# Altium integrated library HyTechDevices.Library.IntLib: 384 symbols (part 1 of 4)
Pins are listed as number, name and electrical type; pins without a type are passive.

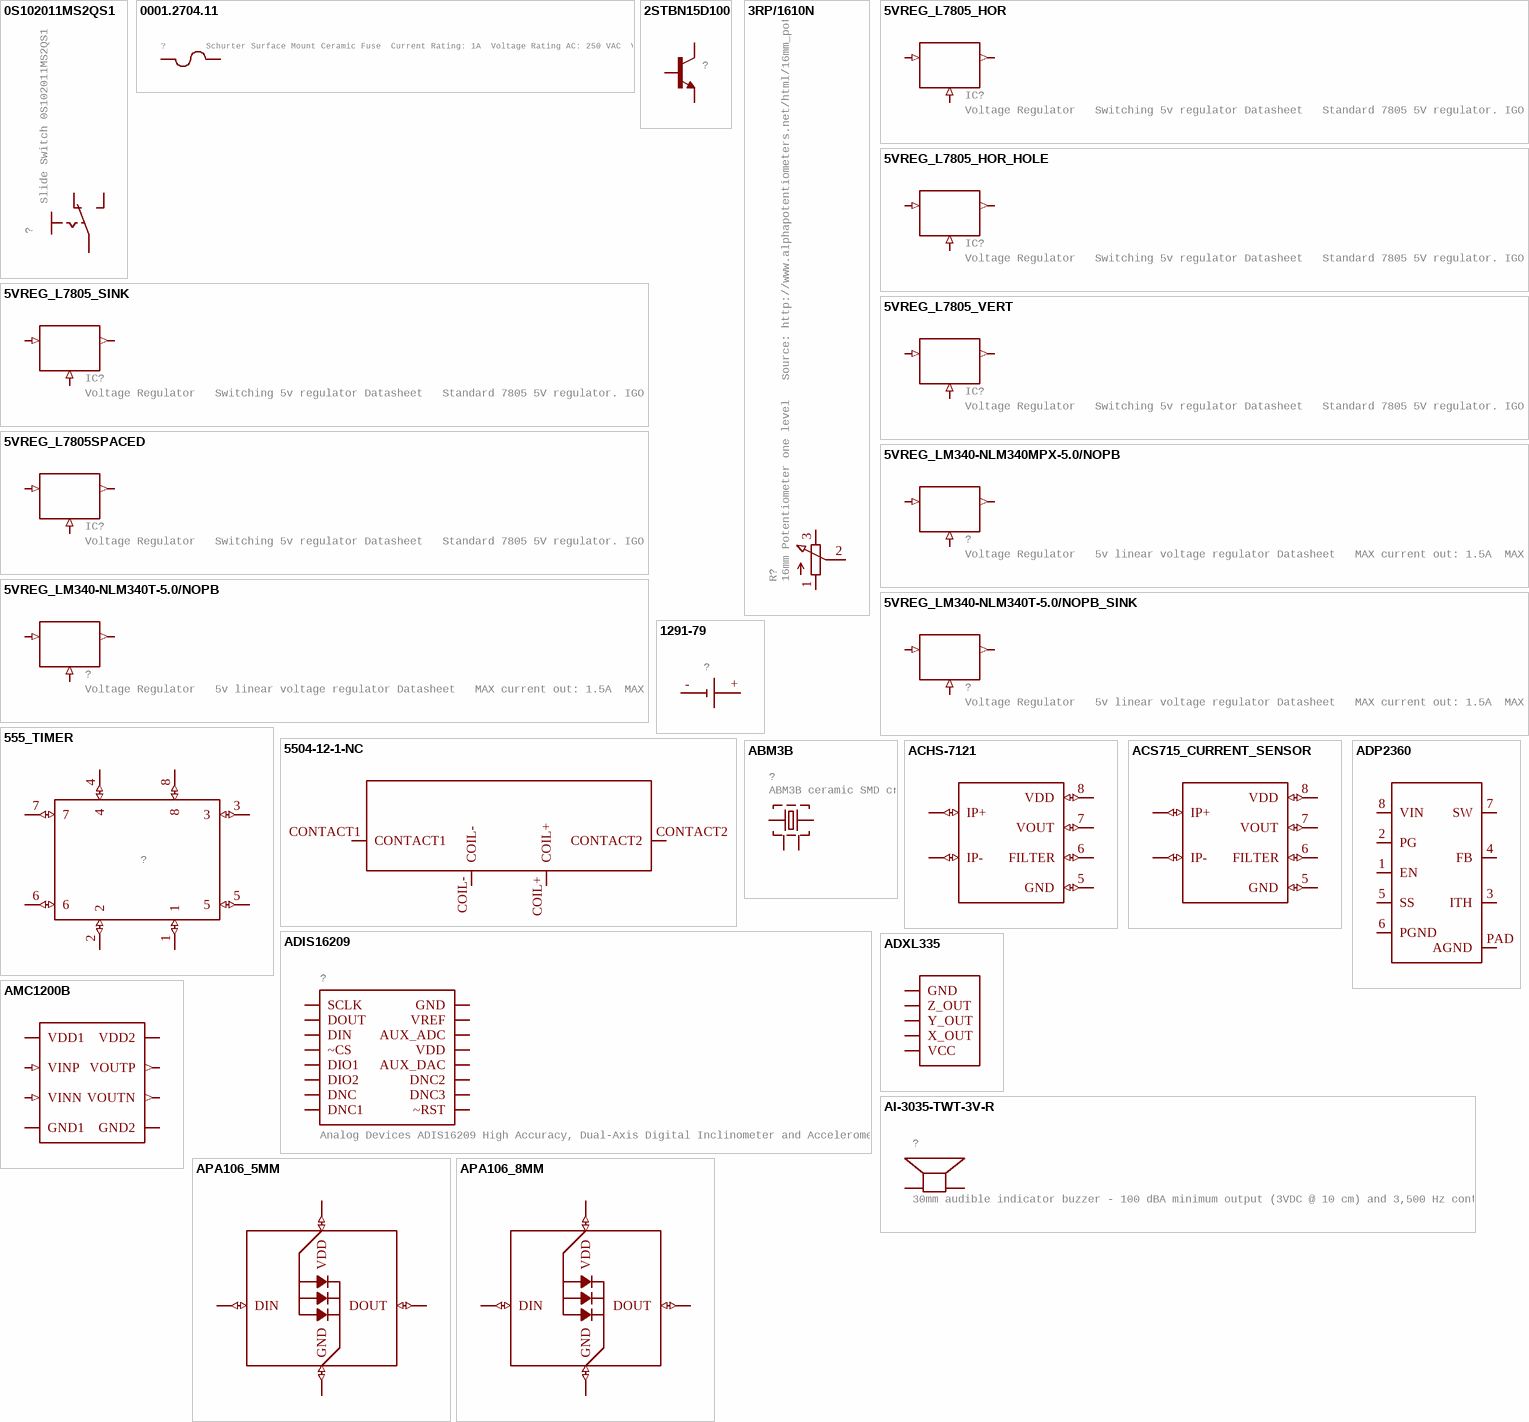
[diagram p0: symbols 0S102011MS2QS1 to APA106_8MM]

## 0S102011MS2QS1
designator ?, comment Slide Switch 0S102011MS2QS1
GateName_1: G$1; SymbolName_1: SIS; LibraryName: HyTechDevices; DeviceSetName: 0S102011MS2QS1; Package: 0S102011MS2QS1
footprint 0S102011MS2QS1
pins: P$1 O, P$2 P, P$3 S

## 0001.2704.11
designator ?, comment Schurter Surface Mount Ceramic Fuse  Current Rating: 1A  Voltage Rating AC: 250 VAC  Voltage Rating DC: 300 VDC  Dimensions: 5 mm x 20 mm  Datasheet
GateName_1: G$1; DeviceSetName: 0001.2704.11; SymbolName_1: FUSE; LibraryName: HyTechDevices; Package: 5X20MM_FUSE
footprint 5X20MM_FUSE
pins: P$1 1 (io), P$2 2 (io)

## 2STBN15D100
designator ?
GateName_1: G$1; SymbolName_1: NPN_BJT; DeviceSetName: 2STBN15D100; LibraryName: HyTechDevices; Package: P/PG-TO263
footprint P/PG-TO263
pins: B BASE, C COLLECTOR, E EMITTER

## 3RP/1610N
designator R?, comment 16mm Potentiometer one level   Source: http://www.alphapotentiometers.net/html/16mm_pot_2.html
GateName_1: G$1; SymbolName_1: POT_EU-; DeviceSetName: 3RP/1610N; LibraryName: HyTechDevices; Package: 3RP/1610N
footprint 3RP/1610N
pins: 1 A, 2 S, 3 E

## 5VREG_L7805_HOR
designator IC?, comment Voltage Regulator   Switching 5v regulator Datasheet   Standard 7805 5V regulator. IGO (Input Ground Output). Spark Fun Electronics SKU : COM-00107 Datasheet
GateName_1: G$1; SymbolName_1: VOLTAGE_REGULATOR; DeviceName: _HOR; DeviceSetName: 5VREG_L7805; LibraryName: HyTechDevices; Package: TO-220-H
footprint TO-220-H
pins: 1 IN (in), 2 GND (in), 3 OUT (out)

## 5VREG_L7805_HOR_HOLE
designator IC?, comment Voltage Regulator   Switching 5v regulator Datasheet   Standard 7805 5V regulator. IGO (Input Ground Output). Spark Fun Electronics SKU : COM-00107 Datasheet
GateName_1: G$1; SymbolName_1: VOLTAGE_REGULATOR; DeviceName: _HOR_HOLE; DeviceSetName: 5VREG_L7805; LibraryName: HyTechDevices; Package: TO-220-H-HOLE
footprint TO-220-H-HOLE
pins: 1 IN (in), 2 GND (in), 3 OUT (out)

## 5VREG_L7805_SINK
designator IC?, comment Voltage Regulator   Switching 5v regulator Datasheet   Standard 7805 5V regulator. IGO (Input Ground Output). Spark Fun Electronics SKU : COM-00107 Datasheet
GateName_1: G$1; SymbolName_1: VOLTAGE_REGULATOR; DeviceName: _SINK; DeviceSetName: 5VREG_L7805; LibraryName: HyTechDevices; Package: TO-220-SINK
footprint TO-220-SINK
pins: 1 IN (in), 2 GND (in), 3 OUT (out)

## 5VREG_L7805_VERT
designator IC?, comment Voltage Regulator   Switching 5v regulator Datasheet   Standard 7805 5V regulator. IGO (Input Ground Output). Spark Fun Electronics SKU : COM-00107 Datasheet
GateName_1: G$1; SymbolName_1: VOLTAGE_REGULATOR; DeviceName: _VERT; DeviceSetName: 5VREG_L7805; LibraryName: HyTechDevices; Package: TO-220
footprint TO-220
pins: 1 IN (in), 2 GND (in), 3 OUT (out)

## 5VREG_L7805SPACED
designator IC?, comment Voltage Regulator   Switching 5v regulator Datasheet   Standard 7805 5V regulator. IGO (Input Ground Output). Spark Fun Electronics SKU : COM-00107 Datasheet
GateName_1: G$1; SymbolName_1: VOLTAGE_REGULATOR; DeviceName: SPACED; DeviceSetName: 5VREG_L7805; LibraryName: HyTechDevices; Package: TO-220-SPACED
footprint TO-220-SPACED
pins: 1 IN (in), 2 GND (in), 3 OUT (out)

## 5VREG_LM340-NLM340MPX-5.0/NOPB
designator ?, comment Voltage Regulator   5v linear voltage regulator Datasheet   MAX current out: 1.5A  MAX voltage in: 35V
GateName_1: G$1; SymbolName_1: VOLTAGE_REGULATOR; DeviceName: LM340MPX-5.0/NOPB; DeviceSetName: 5VREG_LM340-N; LibraryName: HyTechDevices; Package: SOT223
footprint SOT223
pins: 1 IN (in), 2 4 GND (in), 3 OUT (out)

## 5VREG_LM340-NLM340T-5.0/NOPB
designator ?, comment Voltage Regulator   5v linear voltage regulator Datasheet   MAX current out: 1.5A  MAX voltage in: 35V
GateName_1: G$1; SymbolName_1: VOLTAGE_REGULATOR; DeviceName: LM340T-5.0/NOPB; DeviceSetName: 5VREG_LM340-N; LibraryName: HyTechDevices; Package: TO-220
footprint TO-220
pins: 1 IN (in), 2 GND (in), 3 OUT (out)

## 5VREG_LM340-NLM340T-5.0/NOPB_SINK
designator ?, comment Voltage Regulator   5v linear voltage regulator Datasheet   MAX current out: 1.5A  MAX voltage in: 35V
GateName_1: G$1; SymbolName_1: VOLTAGE_REGULATOR; DeviceName: LM340T-5.0/NOPB_SINK; DeviceSetName: 5VREG_LM340-N; LibraryName: HyTechDevices; Package: TO-220-SINK
footprint TO-220-SINK
pins: 1 IN (in), 2 GND (in), 3 OUT (out)

## 555_TIMER
designator ?, comment Standard 555 Timer   Fairchild Semiconductor LM555CN   Texas Instruments LM555CN/NOPB  (value not drawn)
GateName_1: G$1; SymbolName_1: 555_TIMER; LibraryName: HyTechDevices; DeviceSetName: 555_TIMER; Package: DIL08
footprint DIL08
pins: 1 (io), 2 (io), 3 (io), 4 (io), 5 (io), 6 (io), 7 (io), 8 (io)

## 1291-79
designator ?, comment Keystone Electronics 9V 9 Volt battery holder 1291-79  (value not drawn)
GateName_1: G$1; SymbolName_1: BATTERY; LibraryName: HyTechDevices; DeviceSetName: 1291-79; Package: 1291-79
footprint 1291-79
pins: +, -

## 5504-12-1-NC
designator ?, comment Relay 5504-12-1  Normally Closed(Form B)  (value not drawn)
GateName_1: G$1; SymbolName_1: 5504-12-1-NC-RELAY; DeviceSetName: 5504-12-1-NC; LibraryName: HyTechDevices; Package: 5504-12-1-NC
footprint 5504-12-1-NC
pins: COIL+ (io), COIL- (io), CONTACT1 (io), CONTACT2 (io)

## ABM3B
designator ?, comment ABM3B ceramic SMD crystal. Datasheet: https://www.mouser.com/datasheet/2/3/abm3b-39910.pdf
GateName_1: G$1; SymbolName_1: Q-SHIELD2; LibraryName: HyTechDevices; DeviceSetName: ABM3B; Package: ABM3B
footprint ABM3B
pins: P$1 1, P$2 2, P$3 3, P$4 4

## ACHS-7121
designator ?
GateName_1: G$1; SymbolName_1: ACHS-7121; LibraryName: HyTechDevices; DeviceSetName: ACHS-7121; Package: SOP8
footprint SOP8
pins: 1 2 IP+ (io), 3 4 IP- (io), 5 GND (io), 6 FILTER (io), 7 VOUT (io), 8 VDD (io)

## ACS715_CURRENT_SENSOR
designator ?
GateName_1: G$1; SymbolName_1: ACS715_CURRENT_SENSOR; LibraryName: HyTechDevices; DeviceSetName: ACS715_CURRENT_SENSOR; Package: SOP8
footprint SOP8
pins: 1 2 IP+ (io), 3 4 IP- (io), 5 GND (io), 6 FILTER (io), 7 VOUT (io), 8 VDD (io)

## ADIS16209
designator ?, comment Analog Devices ADIS16209 High Accuracy, Dual-Axis Digital Inclinometer and Accelerometer
GateName_1: G$1; SymbolName_1: ADIS16209; LibraryName: HyTechDevices; DeviceSetName: ADIS16209; Package: CC-16-2
footprint CC-16-2
pins: P$1 SCLK (io), P$2 DOUT (io), P$3 DIN (io), P$4 ~CS (io), P$5 DIO1 (io), P$6 DIO2 (io), P$7 DNC (io), P$8 DNC1 (io), P$9 ~RST (io), P$10 DNC3 (io), P$11 DNC2 (io), P$12 AUX_DAC (io), P$13 VDD (io), P$14 AUX_ADC (io), P$15 VREF (io), P$16 GND (io)

## ADP2360
designator ?, comment Analog Devices High Efficiency Buck Regulator  Input Voltage Range: 4.5V - 60V  Output Voltage: 5V (fixed)  Output Current: 50 mA (max)  Datasheet  (value not drawn)
GateName_1: G$1; SymbolName_1: ADP2360; LibraryName: HyTechDevices; DeviceSetName: ADP2360; Package: LFCSP-8
footprint LFCSP-8
pins: 1 EN (io), 2 PG (io), 3 ITH (io), 4 FB (io), 5 SS (io), 6 PGND (io), 7 SW (io), 8 VIN (io), PAD AGND (io)

## ADXL335
designator ?, comment ADXL335 3-axis accelerometer breakout board  (value not drawn)
GateName_1: G$1; SymbolName_1: ADXL335; LibraryName: HyTechDevices; DeviceSetName: ADXL335; Package: ADXL335
footprint ADXL335
pins: GND (io), VCC (io), X_OUT (io), Y_OUT (io), Z_OUT (io)

## AI-3035-TWT-3V-R
designator ?, comment 30mm audible indicator buzzer - 100 dBA minimum output (3VDC @ 10 cm) and 3,500 Hz continuous tone
GateName_1: G$1; DeviceSetName: AI-3035-TWT-3V-R; SymbolName_1: BUZZER; LibraryName: HyTechDevices; Package: AI-3035-TWT-3V-R
footprint AI-3035-TWT-3V-R
pins: P$1 1, P$2 2

## AMC1200B
designator ?
GateName_1: G$1; SymbolName_1: AMC1200B; LibraryName: HyTechDevices; DeviceSetName: AMC1200B; Package: AMC1200B
footprint AMC1200B
pins: GND1 (power), GND2 (power), VDD1 (power), VDD2 (power), VINN (in), VINP (in), VOUTN (out), VOUTP (out)

## APA106_5MM
designator ?, comment RGB LED with built-in IC daisy chained serial  (value not drawn)
GateName_1: G$1; SymbolName_1: APA106; DeviceName: _5MM; LibraryName: HyTechDevices; DeviceSetName: APA106; Package: LED_RGB_5MM
footprint LED_RGB_5MM
pins: P$1 DIN (io), P$2 VDD (io), P$3 GND (io), P$4 DOUT (io)

## APA106_8MM
designator ?, comment RGB LED with built-in IC daisy chained serial  (value not drawn)
GateName_1: G$1; SymbolName_1: APA106; DeviceName: _8MM; LibraryName: HyTechDevices; DeviceSetName: APA106; Package: LED_RGB_8MM
footprint LED_RGB_8MM
pins: P$1 DIN (io), P$2 VDD (io), P$3 GND (io), P$4 DOUT (io)

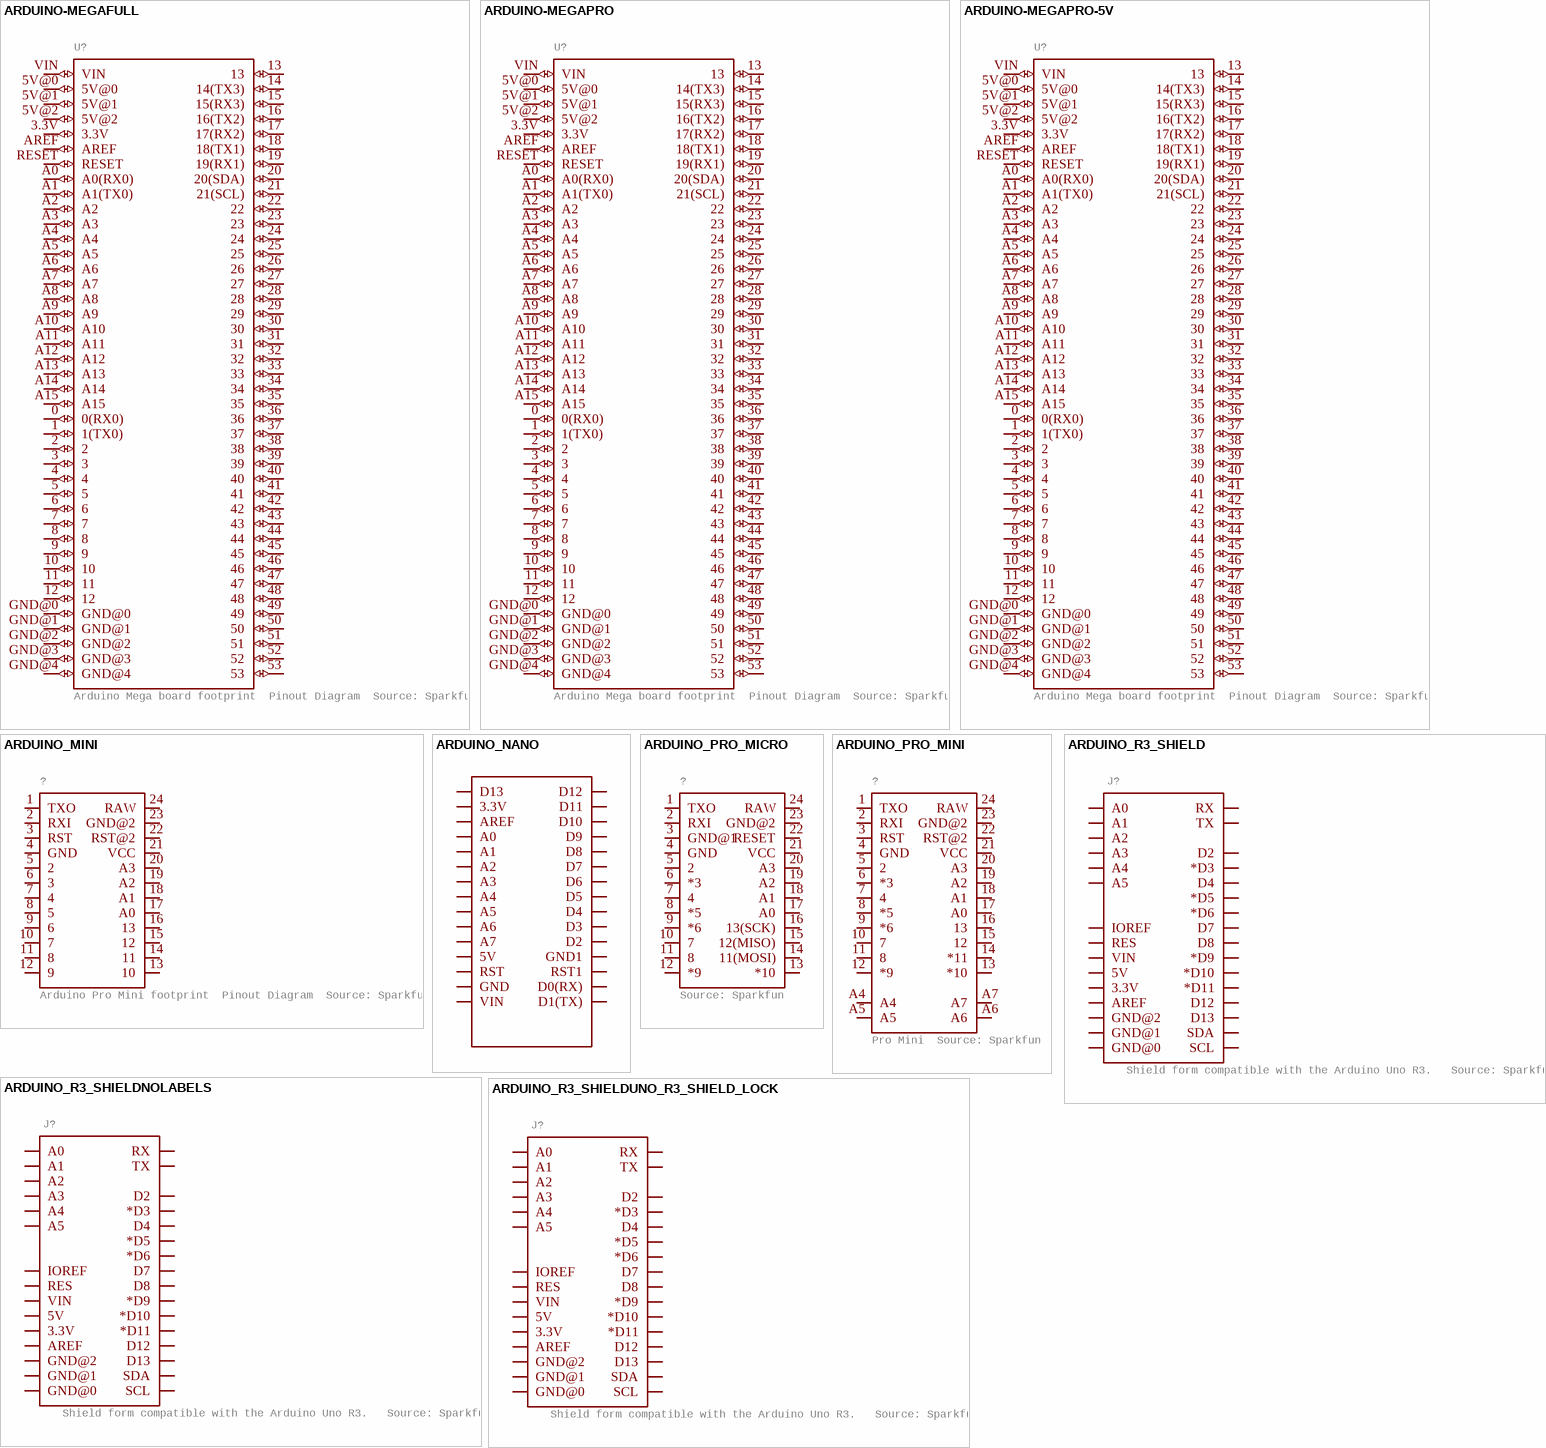
[diagram p1: symbols ARDUINO-MEGAFULL to ARDUINO_R3_SHIELDUNO_R3_SHIELD_LOCK]

## ARDUINO-MEGAFULL
designator U?, comment Arduino Mega board footprint  Pinout Diagram  Source: Sparkfun
GateName_1: G$1; SymbolName_1: ARDUINO-MEGA; DeviceName: FULL; LibraryName: HyTechDevices; DeviceSetName: ARDUINO-MEGA; Package: ARDUINO_MEGA
footprint ARDUINO_MEGA
pins: 0 0(RX0) (io), 1 1(TX0) (io), 2 (io), 3 (io), 3.3V (io), 4 (io), 5 (io), 5V@0 (io), 5V@1 (io), 5V@2 (io), 6 (io), 7 (io), 8 (io), 9 (io), 10 (io), 11 (io), 12 (io), 13 (io), 14 14(TX3) (io), 15 15(RX3) (io), 16 16(TX2) (io), 17 17(RX2) (io), 18 18(TX1) (io), 19 19(RX1) (io), 20 20(SDA) (io), 21 21(SCL) (io), 22 (io), 23 (io), 24 (io), 25 (io), 26 (io), 27 (io), 28 (io), 29 (io), 30 (io), 31 (io), 32 (io), 33 (io), 34 (io), 35 (io), 36 (io), 37 (io), 38 (io), 39 (io), 40 (io), 41 (io), 42 (io), 43 (io), 44 (io), 45 (io), 46 (io), 47 (io), 48 (io), 49 (io), 50 (io), 51 (io), 52 (io), 53 (io), A0 A0(RX0) (io), A1 A1(TX0) (io), A2 (io), A3 (io), A4 (io), A5 (io), A6 (io), A7 (io), A8 (io), A9 (io), A10 (io), A11 (io), A12 (io), A13 (io), A14 (io), A15 (io), AREF (io), GND@0 (io), GND@1 (io), GND@2 (io), GND@3 (io), GND@4 (io), RESET (io), VIN (io)

## ARDUINO-MEGAPRO
designator U?, comment Arduino Mega board footprint  Pinout Diagram  Source: Sparkfun
GateName_1: G$1; SymbolName_1: ARDUINO-MEGA; DeviceName: PRO; LibraryName: HyTechDevices; DeviceSetName: ARDUINO-MEGA; Package: ARDUINO_MEGA-PRO-3.3V
footprint ARDUINO_MEGA-PRO-3.3V
pins: 0 0(RX0) (io), 1 1(TX0) (io), 2 (io), 3 (io), 3.3V (io), 4 (io), 5 (io), 5V@0 (io), 5V@1 (io), 5V@2 (io), 6 (io), 7 (io), 8 (io), 9 (io), 10 (io), 11 (io), 12 (io), 13 (io), 14 14(TX3) (io), 15 15(RX3) (io), 16 16(TX2) (io), 17 17(RX2) (io), 18 18(TX1) (io), 19 19(RX1) (io), 20 20(SDA) (io), 21 21(SCL) (io), 22 (io), 23 (io), 24 (io), 25 (io), 26 (io), 27 (io), 28 (io), 29 (io), 30 (io), 31 (io), 32 (io), 33 (io), 34 (io), 35 (io), 36 (io), 37 (io), 38 (io), 39 (io), 40 (io), 41 (io), 42 (io), 43 (io), 44 (io), 45 (io), 46 (io), 47 (io), 48 (io), 49 (io), 50 (io), 51 (io), 52 (io), 53 (io), A0 A0(RX0) (io), A1 A1(TX0) (io), A2 (io), A3 (io), A4 (io), A5 (io), A6 (io), A7 (io), A8 (io), A9 (io), A10 (io), A11 (io), A12 (io), A13 (io), A14 (io), A15 (io), AREF (io), GND@0 (io), GND@1 (io), GND@2 (io), GND@3 (io), GND@4 (io), RESET (io), VIN (io)

## ARDUINO-MEGAPRO-5V
designator U?, comment Arduino Mega board footprint  Pinout Diagram  Source: Sparkfun
GateName_1: G$1; SymbolName_1: ARDUINO-MEGA; DeviceName: PRO-5V; LibraryName: HyTechDevices; DeviceSetName: ARDUINO-MEGA; Package: ARDUINO_MEGA-PRO-5V
footprint ARDUINO_MEGA-PRO-5V
pins: 0 0(RX0) (io), 1 1(TX0) (io), 2 (io), 3 (io), 3.3V (io), 4 (io), 5 (io), 5V@0 (io), 5V@1 (io), 5V@2 (io), 6 (io), 7 (io), 8 (io), 9 (io), 10 (io), 11 (io), 12 (io), 13 (io), 14 14(TX3) (io), 15 15(RX3) (io), 16 16(TX2) (io), 17 17(RX2) (io), 18 18(TX1) (io), 19 19(RX1) (io), 20 20(SDA) (io), 21 21(SCL) (io), 22 (io), 23 (io), 24 (io), 25 (io), 26 (io), 27 (io), 28 (io), 29 (io), 30 (io), 31 (io), 32 (io), 33 (io), 34 (io), 35 (io), 36 (io), 37 (io), 38 (io), 39 (io), 40 (io), 41 (io), 42 (io), 43 (io), 44 (io), 45 (io), 46 (io), 47 (io), 48 (io), 49 (io), 50 (io), 51 (io), 52 (io), 53 (io), A0 A0(RX0) (io), A1 A1(TX0) (io), A2 (io), A3 (io), A4 (io), A5 (io), A6 (io), A7 (io), A8 (io), A9 (io), A10 (io), A11 (io), A12 (io), A13 (io), A14 (io), A15 (io), AREF (io), GND@0 (io), GND@1 (io), GND@2 (io), GND@3 (io), GND@4 (io), RESET (io), VIN (io)

## ARDUINO_MINI
designator ?, comment Arduino Pro Mini footprint  Pinout Diagram  Source: Sparkfun
GateName_1: G$1; SymbolName_1: ARDUINO_MINI; LibraryName: HyTechDevices; DeviceSetName: ARDUINO_MINI; Package: ARDUINO_MINI
footprint ARDUINO_MINI
pins: 1 TXO (io), 2 RXI (io), 3 RST (io), 4 GND (io), 5 2 (io), 6 3 (io), 7 4 (io), 8 5 (io), 9 6 (io), 10 7 (io), 11 8 (io), 12 9 (io), 13 10 (io), 14 11 (io), 15 12 (io), 16 13 (io), 17 A0 (io), 18 A1 (io), 19 A2 (io), 20 A3 (io), 21 VCC (io), 22 RST@2 (io), 23 GND@2 (io), 24 RAW (io)

## ARDUINO_NANO
designator ?, comment Arduino Nano  Device Specifications Pinout Diagram  (value not drawn)
GateName_1: G$1; SymbolName_1: ARDUINO_NANO; LibraryName: HyTechDevices; DeviceSetName: ARDUINO_NANO; Package: ARDUINO_NANO
footprint ARDUINO_NANO
pins: 3.3V (io), 5V (io), A0 (io), A1 (io), A2 (io), A3 (io), A4 (io), A5 (io), A6 (io), A7 (io), AREF (io), D0(RX) (io), D1(TX) (io), D2 (io), D3 (io), D4 (io), D5 (io), D6 (io), D7 (io), D8 (io), D9 (io), D10 (io), D11 (io), D12 (io), D13 (io), GND (io), GND1 (io), RST (io), RST1 (io), VIN (io)

## ARDUINO_PRO_MICRO
designator ?, comment Source: Sparkfun
GateName_1: G$1; SymbolName_1: ARDUINO_PRO_MICRO; LibraryName: HyTechDevices; DeviceSetName: ARDUINO_PRO_MICRO; Package: ARDUINO_PRO_MICRO
footprint ARDUINO_PRO_MICRO
pins: 1 TXO (io), 2 RXI (io), 3 GND@1 (io), 4 GND (io), 5 2 (io), 6 *3 (io), 7 4 (io), 8 *5 (io), 9 *6 (io), 10 7 (io), 11 8 (io), 12 *9 (io), 13 *10 (io), 14 11(MOSI) (io), 15 12(MISO) (io), 16 13(SCK) (io), 17 A0 (io), 18 A1 (io), 19 A2 (io), 20 A3 (io), 21 VCC (io), 22 RESET (io), 23 GND@2 (io), 24 RAW (io)

## ARDUINO_PRO_MINI
designator ?, comment Pro Mini  Source: Sparkfun
GateName_1: G$1; SymbolName_1: ARDUINO_PRO_MINI; LibraryName: HyTechDevices; DeviceSetName: ARDUINO_PRO_MINI; Package: ARDUINO_PRO_MINI
footprint ARDUINO_PRO_MINI
pins: 1 TXO (io), 2 RXI (io), 3 RST (io), 4 GND (io), 5 2 (io), 6 *3 (io), 7 4 (io), 8 *5 (io), 9 *6 (io), 10 7 (io), 11 8 (io), 12 *9 (io), 13 *10 (io), 14 *11 (io), 15 12 (io), 16 13 (io), 17 A0 (io), 18 A1 (io), 19 A2 (io), 20 A3 (io), 21 VCC (io), 22 RST@2 (io), 23 GND@2 (io), 24 RAW (io), A4 (io), A5 (io), A6 (io), A7 (io)

## ARDUINO_R3_SHIELD
designator J?, comment Shield form compatible with the Arduino Uno R3.   Source: Sparkfun
GateName_1: G$1; SymbolName_1: ARDUINO_R3_SHIELD; LibraryName: HyTechDevices; DeviceSetName: ARDUINO_R3_SHIELD; Package: UNO_R3_SHIELD
footprint UNO_R3_SHIELD
pins: 3.3V (io), 5V (io), A0 (io), A1 (io), A2 (io), A3 (io), A4 (io), A5 (io), AREF (io), D2 (io), D3 *D3 (io), D4 (io), D5 *D5 (io), D6 *D6 (io), D7 (io), D8 (io), D9 *D9 (io), D10 *D10 (io), D11 *D11 (io), D12 (io), D13 (io), GND@0 (io), GND@1 (io), GND@2 (io), IOREF (io), RES (io), RX (io), SCL (io), SDA (io), TX (io), VIN (io)

## ARDUINO_R3_SHIELDNOLABELS
designator J?, comment Shield form compatible with the Arduino Uno R3.   Source: Sparkfun
GateName_1: G$1; SymbolName_1: ARDUINO_R3_SHIELD; DeviceName: NOLABELS; LibraryName: HyTechDevices; DeviceSetName: ARDUINO_R3_SHIELD; Package: UNO_R3_SHIELD_NOLABELS
footprint UNO_R3_SHIELD_NOLABELS
pins: 3.3V (io), 5V (io), A0 (io), A1 (io), A2 (io), A3 (io), A4 (io), A5 (io), AREF (io), D2 (io), D3 *D3 (io), D4 (io), D5 *D5 (io), D6 *D6 (io), D7 (io), D8 (io), D9 *D9 (io), D10 *D10 (io), D11 *D11 (io), D12 (io), D13 (io), GND@0 (io), GND@1 (io), GND@2 (io), IOREF (io), RES (io), RX (io), SCL (io), SDA (io), TX (io), VIN (io)

## ARDUINO_R3_SHIELDUNO_R3_SHIELD_LOCK
designator J?, comment Shield form compatible with the Arduino Uno R3.   Source: Sparkfun
GateName_1: G$1; SymbolName_1: ARDUINO_R3_SHIELD; DeviceName: UNO_R3_SHIELD_LOCK; LibraryName: HyTechDevices; DeviceSetName: ARDUINO_R3_SHIELD; Package: UNO_R3_SHIELD_LOCK
footprint UNO_R3_SHIELD_LOCK
pins: 3.3V (io), 5V (io), A0 (io), A1 (io), A2 (io), A3 (io), A4 (io), A5 (io), AREF (io), D2 (io), D3 *D3 (io), D4 (io), D5 *D5 (io), D6 *D6 (io), D7 (io), D8 (io), D9 *D9 (io), D10 *D10 (io), D11 *D11 (io), D12 (io), D13 (io), GND@0 (io), GND@1 (io), GND@2 (io), IOREF (io), RES (io), RX (io), SCL (io), SDA (io), TX (io), VIN (io)

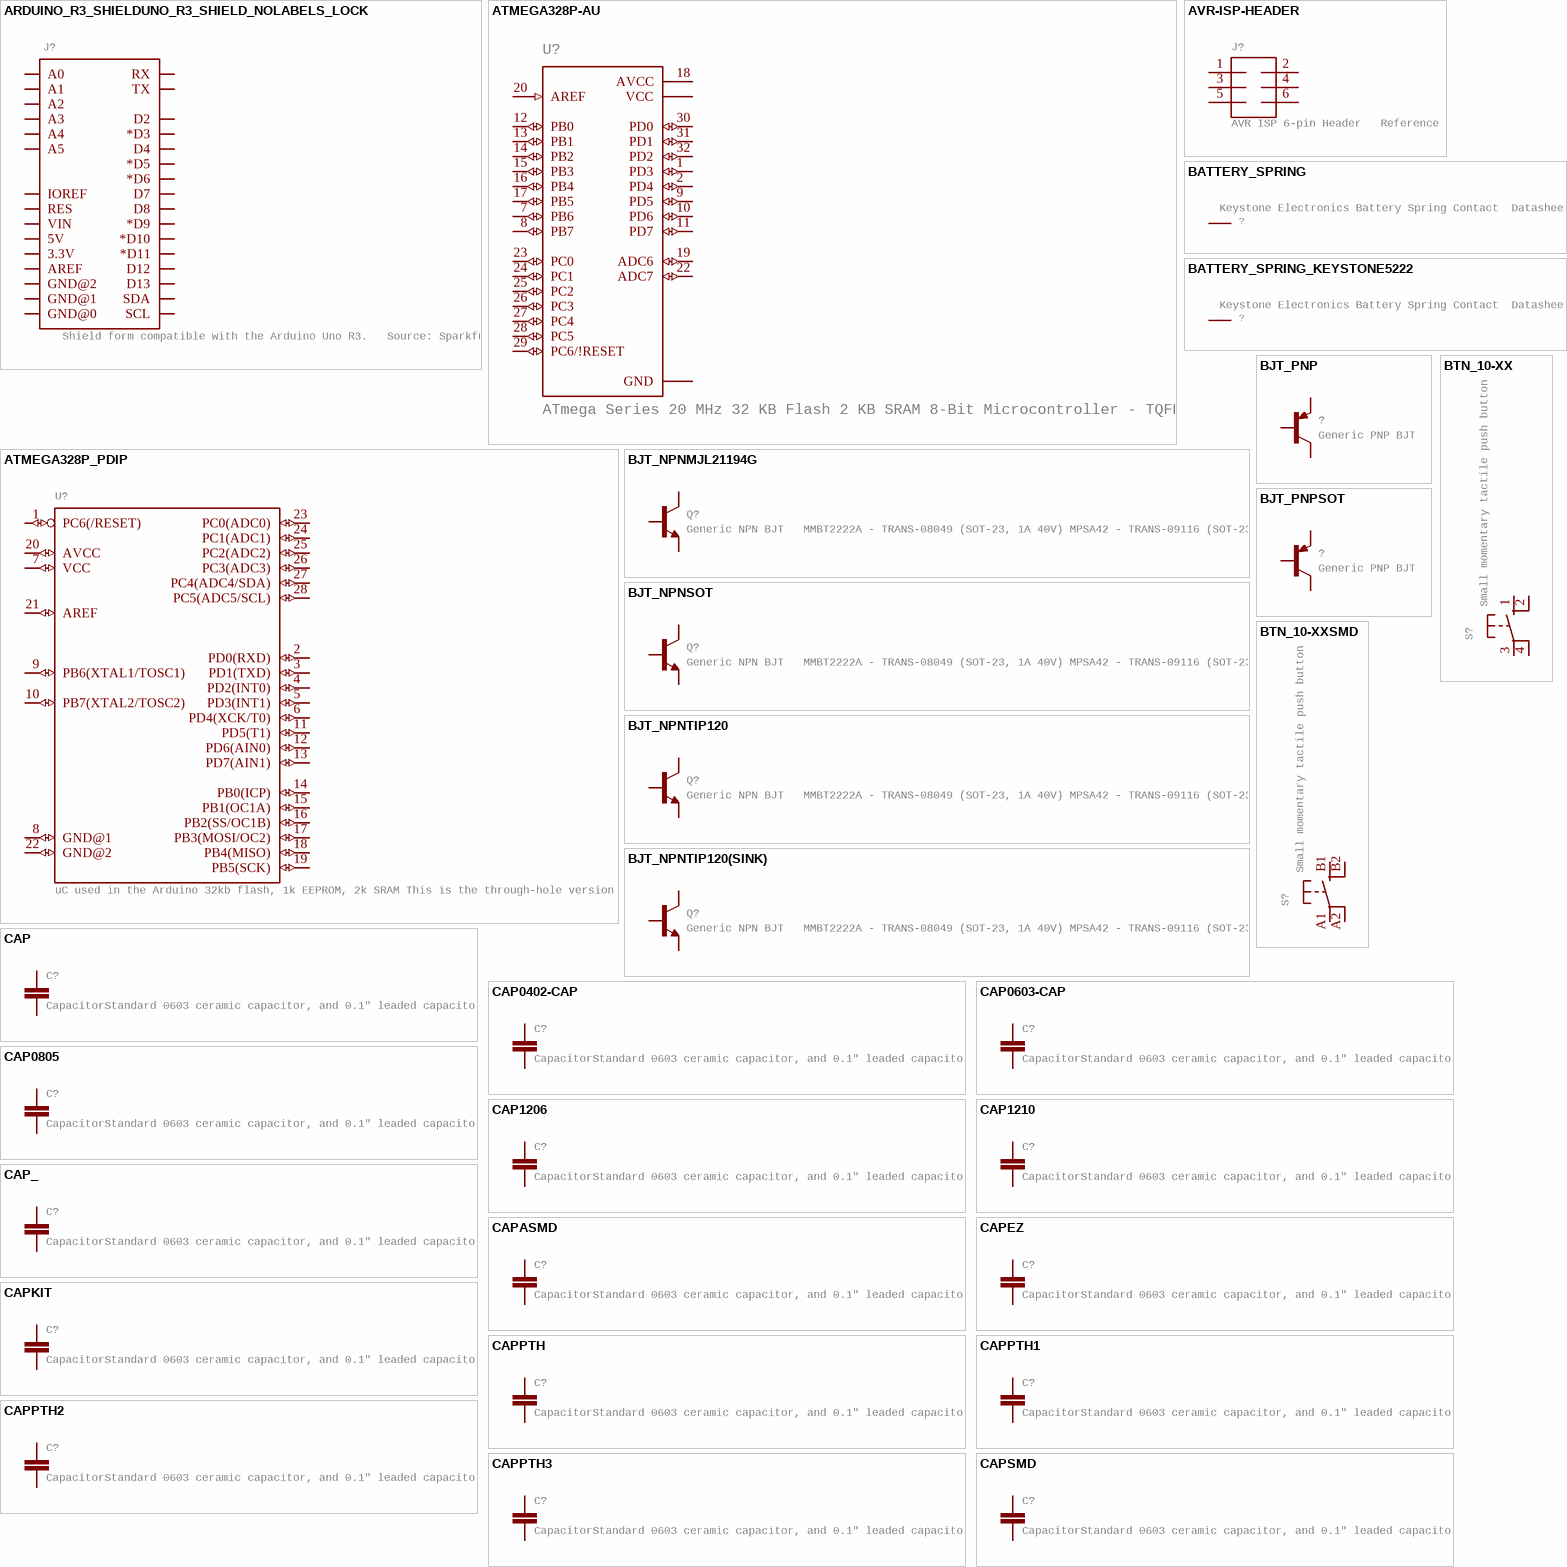
[diagram p2: symbols ARDUINO_R3_SHIELDUNO_R3_SHIELD_NOLABELS_LOCK to CAPSMD]

## ARDUINO_R3_SHIELDUNO_R3_SHIELD_NOLABELS_LOCK
designator J?, comment Shield form compatible with the Arduino Uno R3.   Source: Sparkfun
GateName_1: G$1; SymbolName_1: ARDUINO_R3_SHIELD; DeviceName: UNO_R3_SHIELD_NOLABELS_LOCK; LibraryName: HyTechDevices; DeviceSetName: ARDUINO_R3_SHIELD; Package: UNO_R3_SHIELD_NOLABELS_LOCK
footprint UNO_R3_SHIELD_NOLABELS_LOCK
pins: 3.3V (io), 5V (io), A0 (io), A1 (io), A2 (io), A3 (io), A4 (io), A5 (io), AREF (io), D2 (io), D3 *D3 (io), D4 (io), D5 *D5 (io), D6 *D6 (io), D7 (io), D8 (io), D9 *D9 (io), D10 *D10 (io), D11 *D11 (io), D12 (io), D13 (io), GND@0 (io), GND@1 (io), GND@2 (io), IOREF (io), RES (io), RX (io), SCL (io), SDA (io), TX (io), VIN (io)

## ATMEGA328P-AU
designator U?, comment ATmega Series 20 MHz 32 KB Flash 2 KB SRAM 8-Bit Microcontroller - TQFP-32
GateName_1: G$1; SymbolName_1: ATMEGA328P-AU; DESCRIPTION: AVR AVR® ATmega Microcontroller IC 8-Bit 20MHz 32KB _16K x 16_ FLASH 32-TQFP _7x7_; MF: Microchip; LibraryName: HyTechDevices; DeviceSetName: ATMEGA328P-AU; Package: QFP80P900X900X120-32N; AVAILABILITY: Unavailable; MP: ATMEGA328P-AU; PACKAGE: TQFP-32 Microchip; PRICE: None
footprint QFP80P900X900X120-32N
pins: 1 PD3 (io), 2 PD4 (io), 3 5 21 GND (power), 4 6 VCC (power), 7 PB6 (io), 8 PB7 (io), 9 PD5 (io), 10 PD6 (io), 11 PD7 (io), 12 PB0 (io), 13 PB1 (io), 14 PB2 (io), 15 PB3 (io), 16 PB4 (io), 17 PB5 (io), 18 AVCC (power), 19 ADC6 (io), 20 AREF (in), 22 ADC7 (io), 23 PC0 (io), 24 PC1 (io), 25 PC2 (io), 26 PC3 (io), 27 PC4 (io), 28 PC5 (io), 29 PC6/!RESET (io), 30 PD0 (io), 31 PD1 (io), 32 PD2 (io)

## ATMEGA328P_PDIP
designator U?, comment uC used in the Arduino 32kb flash, 1k EEPROM, 2k SRAM This is the through-hole version of this chip. Source: Sparkfun
GateName_1: G$1; SymbolName_1: ATMEGAXX8-28PIN; DeviceSetName: ATMEGA328P_PDIP; LibraryName: HyTechDevices; Package: DIL28-3
footprint DIL28-3
pins: 1 PC6(/RESET) (io), 2 PD0(RXD) (io), 3 PD1(TXD) (io), 4 PD2(INT0) (io), 5 PD3(INT1) (io), 6 PD4(XCK/T0) (io), 7 VCC (io), 8 GND@1 (io), 9 PB6(XTAL1/TOSC1) (io), 10 PB7(XTAL2/TOSC2) (io), 11 PD5(T1) (io), 12 PD6(AIN0) (io), 13 PD7(AIN1) (io), 14 PB0(ICP) (io), 15 PB1(OC1A) (io), 16 PB2(SS/OC1B) (io), 17 PB3(MOSI/OC2) (io), 18 PB4(MISO) (io), 19 PB5(SCK) (io), 20 AVCC (io), 21 AREF (io), 22 GND@2 (io), 23 PC0(ADC0) (io), 24 PC1(ADC1) (io), 25 PC2(ADC2) (io), 26 PC3(ADC3) (io), 27 PC4(ADC4/SDA) (io), 28 PC5(ADC5/SCL) (io)

## AVR-ISP-HEADER
designator J?, comment AVR ISP 6-pin Header   Reference
GateName_1: G$1; SymbolName_1: CONN_03X2; DeviceSetName: AVR-ISP-HEADER; LibraryName: HyTechDevices; Package: 2X03; DIGIKEY: S2011EC-03-ND
footprint 2X03
pins: 1, 2, 3, 4, 5, 6

## BATTERY_SPRING
designator ?, comment Keystone Electronics Battery Spring Contact  Datasheet
GateName_1: G$1; SymbolName_1: MV; DeviceSetName: BATTERY_SPRING; LibraryName: HyTechDevices; Package: KEYSTONE5203
footprint KEYSTONE5203
pins: P$1 S

## BATTERY_SPRING_KEYSTONE5222
designator ?, comment Keystone Electronics Battery Spring Contact  Datasheet
GateName_1: G$1; SymbolName_1: MV; DeviceName: _KEYSTONE5222; DeviceSetName: BATTERY_SPRING; LibraryName: HyTechDevices; Package: KEYSTONE5222
footprint KEYSTONE5222
pins: P$1 S

## BJT_NPNMJL21194G
designator Q?, comment Generic NPN BJT   MMBT2222A - TRANS-08049 (SOT-23, 1A 40V) MPSA42 - TRANS-09116 (SOT-23, 500mA 300V) MMBT5088LT1G - TRANS-11160 (SOT-23, 50 mA 30V)          BC547 -     COM-08928    (TO-92 45V 100mA) (1.Collector 2.Base 3.Emitter)             2N3904 -     COM-00521    (TO-92 40V 200mA) (1.Emitter 2.Base 3.Collector)             P2N2222A -     COM-12852    (TO-92 40V 600mA) (1.Collector 2.Base 3.Emitter)         Source: Sparkfun
GateName_1: G$1; SymbolName_1: NPN_BJT; DeviceName: MJL21194G; DeviceSetName: BJT_NPN; LibraryName: HyTechDevices; Package: TO-264_MAX247
footprint TO-264_MAX247
pins: P1 BASE, P2 COLLECTOR, P3 EMITTER

## BJT_NPNSOT
designator Q?, comment Generic NPN BJT   MMBT2222A - TRANS-08049 (SOT-23, 1A 40V) MPSA42 - TRANS-09116 (SOT-23, 500mA 300V) MMBT5088LT1G - TRANS-11160 (SOT-23, 50 mA 30V)          BC547 -     COM-08928    (TO-92 45V 100mA) (1.Collector 2.Base 3.Emitter)             2N3904 -     COM-00521    (TO-92 40V 200mA) (1.Emitter 2.Base 3.Collector)             P2N2222A -     COM-12852    (TO-92 40V 600mA) (1.Collector 2.Base 3.Emitter)         Source: Sparkfun
GateName_1: G$1; SymbolName_1: NPN_BJT; DeviceName: SOT; DeviceSetName: BJT_NPN; LibraryName: HyTechDevices; Package: SOT23
footprint SOT23
pins: 1 BASE, 2 EMITTER, 3 COLLECTOR

## BJT_NPNTIP120
designator Q?, comment Generic NPN BJT   MMBT2222A - TRANS-08049 (SOT-23, 1A 40V) MPSA42 - TRANS-09116 (SOT-23, 500mA 300V) MMBT5088LT1G - TRANS-11160 (SOT-23, 50 mA 30V)          BC547 -     COM-08928    (TO-92 45V 100mA) (1.Collector 2.Base 3.Emitter)             2N3904 -     COM-00521    (TO-92 40V 200mA) (1.Emitter 2.Base 3.Collector)             P2N2222A -     COM-12852    (TO-92 40V 600mA) (1.Collector 2.Base 3.Emitter)         Source: Sparkfun
GateName_1: G$1; SymbolName_1: NPN_BJT; DeviceName: TIP120; DeviceSetName: BJT_NPN; LibraryName: HyTechDevices; Package: TO-220
footprint TO-220
pins: 1 BASE, 2 COLLECTOR, 3 EMITTER

## BJT_NPNTIP120(SINK)
designator Q?, comment Generic NPN BJT   MMBT2222A - TRANS-08049 (SOT-23, 1A 40V) MPSA42 - TRANS-09116 (SOT-23, 500mA 300V) MMBT5088LT1G - TRANS-11160 (SOT-23, 50 mA 30V)          BC547 -     COM-08928    (TO-92 45V 100mA) (1.Collector 2.Base 3.Emitter)             2N3904 -     COM-00521    (TO-92 40V 200mA) (1.Emitter 2.Base 3.Collector)             P2N2222A -     COM-12852    (TO-92 40V 600mA) (1.Collector 2.Base 3.Emitter)         Source: Sparkfun
GateName_1: G$1; SymbolName_1: NPN_BJT; DeviceName: TIP120(SINK); DeviceSetName: BJT_NPN; LibraryName: HyTechDevices; Package: TO-220-SINK
footprint TO-220-SINK
pins: 1 BASE, 2 COLLECTOR, 3 EMITTER

## BJT_PNP
designator ?, comment Generic PNP BJT
GateName_1: G$1; SymbolName_1: PNP_BJT; DeviceSetName: BJT_PNP; LibraryName: HyTechDevices; Package: TO-220
footprint TO-220
pins: 1 B, 2 C, 3 E

## BJT_PNPSOT
designator ?, comment Generic PNP BJT
GateName_1: G$1; SymbolName_1: PNP_BJT; DeviceName: SOT; DeviceSetName: BJT_PNP; LibraryName: HyTechDevices; Package: SOT23
footprint SOT23
pins: 1 B, 2 E, 3 C

## BTN_10-XX
designator S?, comment Small momentary tactile push button
MPN: B3F-1000; GateName_1: 1; SymbolName_1: TS2; DeviceSetName: BTN_10-XX; LibraryName: HyTechDevices; Package: B3F-10XX; OC_FARNELL: 176432; OC_NEWARK: 36M3542
footprint B3F-10XX
pins: 1 S, 2 S1, 3 P, 4 P1

## BTN_10-XXSMD
designator S?, comment Small momentary tactile push button
GateName_1: 1; SymbolName_1: TS2; DeviceName: SMD; DeviceSetName: BTN_10-XX; LibraryName: HyTechDevices; Package: TACTILE_SWITCH_SMD_6.2MM_TALL
footprint TACTILE_SWITCH_SMD_6.2MM_TALL
pins: A1 P, A2 P1, B1 S, B2 S1

## CAP
designator C?, comment CapacitorStandard 0603 ceramic capacitor, and 0.1" leaded capacitor.
GateName_1: G$1; SymbolName_1: CAP; LibraryName: HyTechDevices; DeviceSetName: CAP; Package: LLS2V221MELZ
footprint LLS2V221MELZ
pins: P$1 1, P$2 2

## CAP0402-CAP
designator C?, comment CapacitorStandard 0603 ceramic capacitor, and 0.1" leaded capacitor.
GateName_1: G$1; SymbolName_1: CAP; DeviceName: 0402-CAP; LibraryName: HyTechDevices; DeviceSetName: CAP; Package: 0402-CAP
footprint 0402-CAP
pins: 1, 2

## CAP0603-CAP
designator C?, comment CapacitorStandard 0603 ceramic capacitor, and 0.1" leaded capacitor.
GateName_1: G$1; SymbolName_1: CAP; DeviceName: 0603-CAP; LibraryName: HyTechDevices; DeviceSetName: CAP; Package: 0603-CAP
footprint 0603-CAP
pins: 1, 2

## CAP0805
designator C?, comment CapacitorStandard 0603 ceramic capacitor, and 0.1" leaded capacitor.
GateName_1: G$1; SymbolName_1: CAP; DeviceName: 0805; LibraryName: HyTechDevices; DeviceSetName: CAP; Package: 0805
footprint 0805
pins: 1, 2

## CAP1206
designator C?, comment CapacitorStandard 0603 ceramic capacitor, and 0.1" leaded capacitor.
GateName_1: G$1; SymbolName_1: CAP; DeviceName: 1206; LibraryName: HyTechDevices; DeviceSetName: CAP; Package: 1206
footprint 1206
pins: 1, 2

## CAP1210
designator C?, comment CapacitorStandard 0603 ceramic capacitor, and 0.1" leaded capacitor.
GateName_1: G$1; SymbolName_1: CAP; DeviceName: 1210; LibraryName: HyTechDevices; DeviceSetName: CAP; Package: 1210
footprint 1210
pins: 1, 2

## CAP_
designator C?, comment CapacitorStandard 0603 ceramic capacitor, and 0.1" leaded capacitor.
GateName_1: G$1; SymbolName_1: CAP; DeviceName: _; LibraryName: HyTechDevices; DeviceSetName: CAP; Package: AXIAL-5MM
footprint AXIAL-5MM
pins: P$1 1, P$2 2

## CAPASMD
designator C?, comment CapacitorStandard 0603 ceramic capacitor, and 0.1" leaded capacitor.
GateName_1: G$1; SymbolName_1: CAP; DeviceName: ASMD; LibraryName: HyTechDevices; DeviceSetName: CAP; Package: CTZ3
footprint CTZ3
pins: + 1, - 2

## CAPEZ
designator C?, comment CapacitorStandard 0603 ceramic capacitor, and 0.1" leaded capacitor.
GateName_1: G$1; SymbolName_1: CAP; DeviceName: EZ; LibraryName: HyTechDevices; DeviceSetName: CAP; Package: CAP-PTH-SMALLEZ
footprint CAP-PTH-SMALLEZ
pins: 1, 2

## CAPKIT
designator C?, comment CapacitorStandard 0603 ceramic capacitor, and 0.1" leaded capacitor.
GateName_1: G$1; SymbolName_1: CAP; DeviceName: KIT; LibraryName: HyTechDevices; DeviceSetName: CAP; Package: CAP-PTH-SMALL-KIT
footprint CAP-PTH-SMALL-KIT
pins: 1, 2

## CAPPTH
designator C?, comment CapacitorStandard 0603 ceramic capacitor, and 0.1" leaded capacitor.
GateName_1: G$1; SymbolName_1: CAP; DeviceName: PTH; LibraryName: HyTechDevices; DeviceSetName: CAP; Package: CAP-PTH-SMALL
footprint CAP-PTH-SMALL
pins: 1, 2

## CAPPTH1
designator C?, comment CapacitorStandard 0603 ceramic capacitor, and 0.1" leaded capacitor.
GateName_1: G$1; SymbolName_1: CAP; DeviceName: PTH1; LibraryName: HyTechDevices; DeviceSetName: CAP; Package: CAP-PTH-5MM
footprint CAP-PTH-5MM
pins: 1, 2

## CAPPTH2
designator C?, comment CapacitorStandard 0603 ceramic capacitor, and 0.1" leaded capacitor.
GateName_1: G$1; SymbolName_1: CAP; DeviceName: PTH2; LibraryName: HyTechDevices; DeviceSetName: CAP; Package: CAP-PTH-SMALL2
footprint CAP-PTH-SMALL2
pins: 1, 2

## CAPPTH3
designator C?, comment CapacitorStandard 0603 ceramic capacitor, and 0.1" leaded capacitor.
GateName_1: G$1; SymbolName_1: CAP; DeviceName: PTH3; LibraryName: HyTechDevices; DeviceSetName: CAP; Package: CAP-PTH-LARGE
footprint CAP-PTH-LARGE
pins: 1, 2

## CAPSMD
designator C?, comment CapacitorStandard 0603 ceramic capacitor, and 0.1" leaded capacitor.
GateName_1: G$1; SymbolName_1: CAP; DeviceName: SMD; LibraryName: HyTechDevices; DeviceSetName: CAP; Package: GRM43D
footprint GRM43D
pins: A 1, C 2

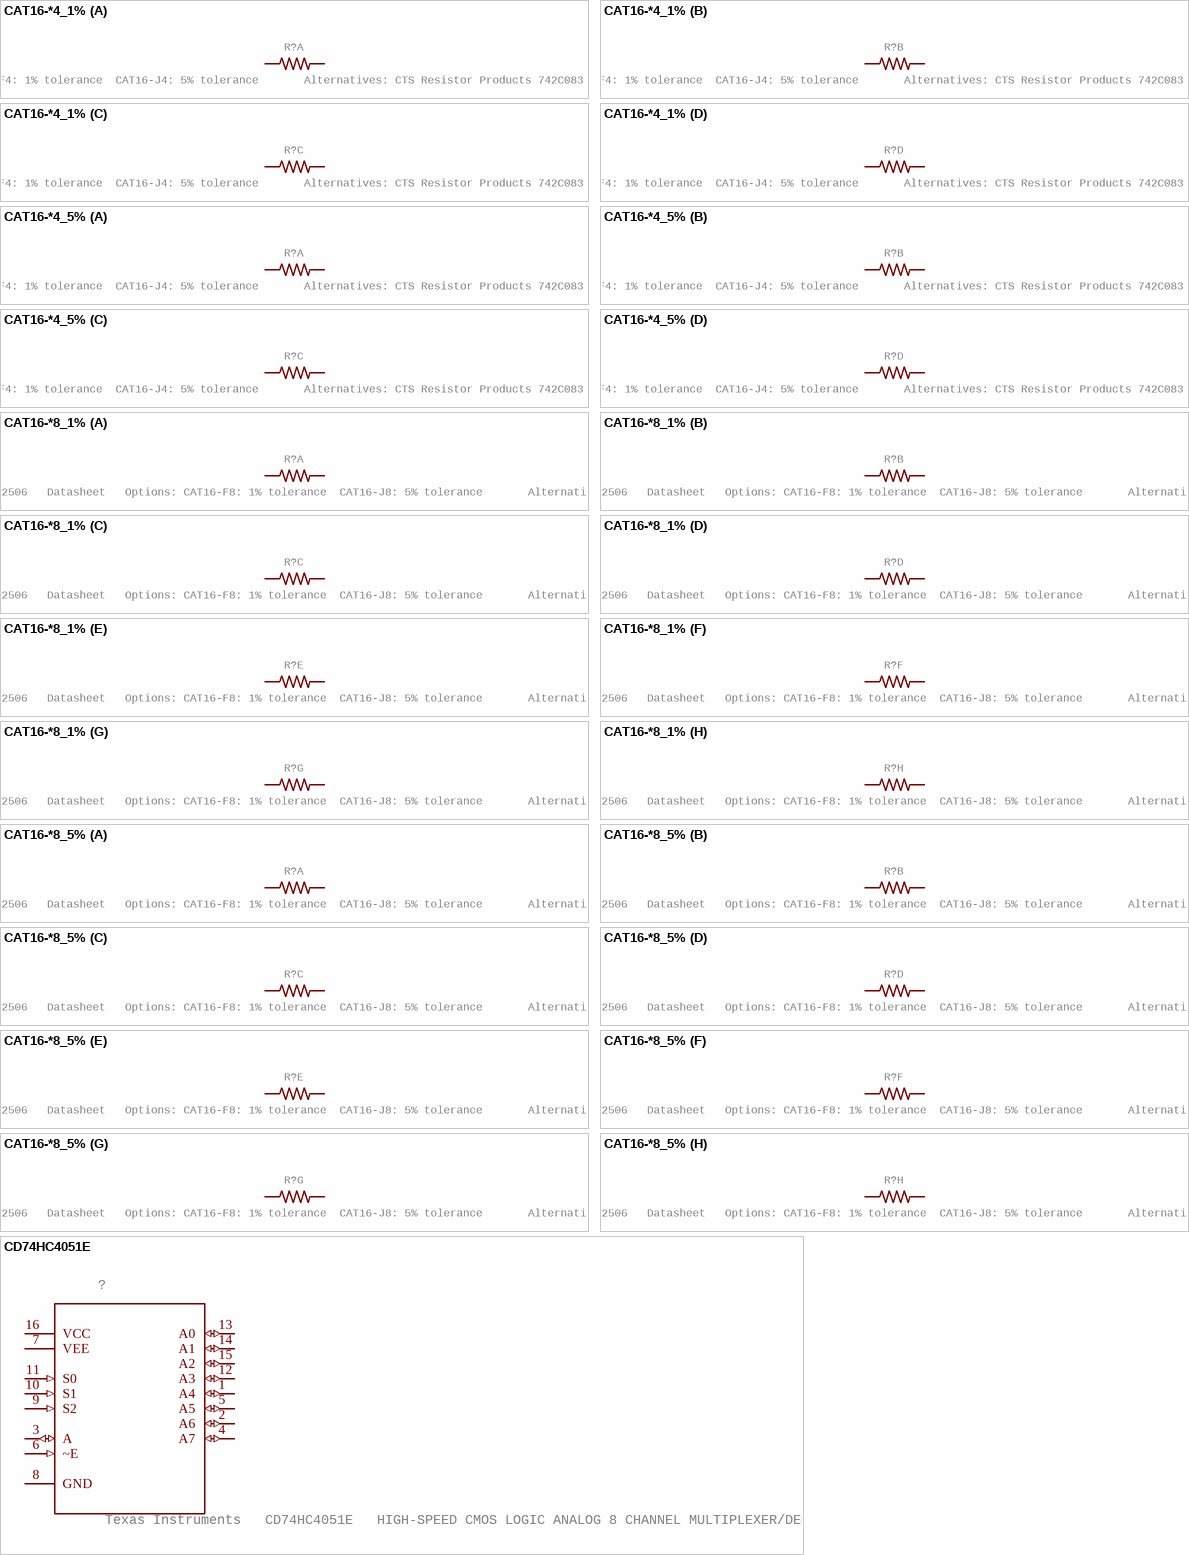
[diagram p3: symbols CAT16-*4_1% to CD74HC4051E]

## CAT16-*4_1%
designator R?, comment Bourns CAT16 series 4x 1% or 5% resistor array size 1206   Datasheet   Options: CAT16-F4: 1% tolerance  CAT16-J4: 5% tolerance       Alternatives: CTS Resistor Products 742C083 series - Datasheet  Panasonic EXBV8 series - Datasheet  Yageo TC164 series - Datasheet
GateName_1: _1; SymbolName_1: RESISTOR-1; GateName_2: _2; GateName_3: _3; GateName_4: _4; DeviceName: _1%; DeviceSetName: CAT16-*4; SymbolName_2: RESISTOR-1; SymbolName_3: RESISTOR-1; SymbolName_4: RESISTOR-1; LibraryName: HyTechDevices; Package: CAT16-*4
footprint CAT16-*4
part A pins: P$1 1, P$8 2
part B pins: P$2 1, P$7 2
part C pins: P$3 1, P$6 2
part D pins: P$4 1, P$5 2

## CAT16-*4_5%
designator R?, comment Bourns CAT16 series 4x 1% or 5% resistor array size 1206   Datasheet   Options: CAT16-F4: 1% tolerance  CAT16-J4: 5% tolerance       Alternatives: CTS Resistor Products 742C083 series - Datasheet  Panasonic EXBV8 series - Datasheet  Yageo TC164 series - Datasheet
GateName_1: _1; SymbolName_1: RESISTOR-1; GateName_2: _2; GateName_3: _3; GateName_4: _4; DeviceName: _5%; DeviceSetName: CAT16-*4; SymbolName_2: RESISTOR-1; SymbolName_3: RESISTOR-1; SymbolName_4: RESISTOR-1; LibraryName: HyTechDevices; Package: CAT16-*4
footprint CAT16-*4
part A pins: P$1 1, P$8 2
part B pins: P$2 1, P$7 2
part C pins: P$3 1, P$6 2
part D pins: P$4 1, P$5 2

## CAT16-*8_1%
designator R?, comment Bourns CAT16 series 8x 1% or 5% resistor array size 2506   Datasheet   Options: CAT16-F8: 1% tolerance  CAT16-J8: 5% tolerance       Alternative: CTS Resistor Products 742C163 series   Datasheet
GateName_1: _1; SymbolName_1: RESISTOR-1; GateName_2: _2; GateName_3: _3; GateName_4: _4; GateName_5: _5; GateName_6: _6; GateName_7: _7; GateName_8: _8; DeviceName: _1%; DeviceSetName: CAT16-*8; SymbolName_2: RESISTOR-1; SymbolName_3: RESISTOR-1; SymbolName_4: RESISTOR-1; SymbolName_5: RESISTOR-1; SymbolName_6: RESISTOR-1; SymbolName_7: RESISTOR-1; SymbolName_8: RESISTOR-1; LibraryName: HyTechDevices; Package: CAT16-*8
footprint CAT16-*8
part A pins: P$1 1, P$16 2
part B pins: P$2 1, P$15 2
part C pins: P$3 1, P$14 2
part D pins: P$4 1, P$13 2
part E pins: P$5 1, P$12 2
part F pins: P$6 1, P$11 2
part G pins: P$7 1, P$10 2
part H pins: P$8 1, P$9 2

## CAT16-*8_5%
designator R?, comment Bourns CAT16 series 8x 1% or 5% resistor array size 2506   Datasheet   Options: CAT16-F8: 1% tolerance  CAT16-J8: 5% tolerance       Alternative: CTS Resistor Products 742C163 series   Datasheet
GateName_1: _1; SymbolName_1: RESISTOR-1; GateName_2: _2; GateName_3: _3; GateName_4: _4; GateName_5: _5; GateName_6: _6; GateName_7: _7; GateName_8: _8; DeviceName: _5%; DeviceSetName: CAT16-*8; SymbolName_2: RESISTOR-1; SymbolName_3: RESISTOR-1; SymbolName_4: RESISTOR-1; SymbolName_5: RESISTOR-1; SymbolName_6: RESISTOR-1; SymbolName_7: RESISTOR-1; SymbolName_8: RESISTOR-1; LibraryName: HyTechDevices; Package: CAT16-*8
footprint CAT16-*8
part A pins: P$1 1, P$16 2
part B pins: P$2 1, P$15 2
part C pins: P$3 1, P$14 2
part D pins: P$4 1, P$13 2
part E pins: P$5 1, P$12 2
part F pins: P$6 1, P$11 2
part G pins: P$7 1, P$10 2
part H pins: P$8 1, P$9 2

## CD74HC4051E
designator ?, comment Texas Instruments   CD74HC4051E   HIGH-SPEED CMOS LOGIC ANALOG 8 CHANNEL MULTIPLEXER/DEMULTIPLEXER
GateName_1: G$1; SymbolName_1: CD74HC4051E; LibraryName: HyTechDevices; DeviceSetName: CD74HC4051E; Package: DIL16
footprint DIL16
pins: 1 A4 (io), 2 A6 (io), 3 A (io), 4 A7 (io), 5 A5 (io), 6 ~E (in), 7 VEE (power), 8 GND, 9 S2 (in), 10 S1 (in), 11 S0 (in), 12 A3 (io), 13 A0 (io), 14 A1 (io), 15 A2 (io), 16 VCC (power)

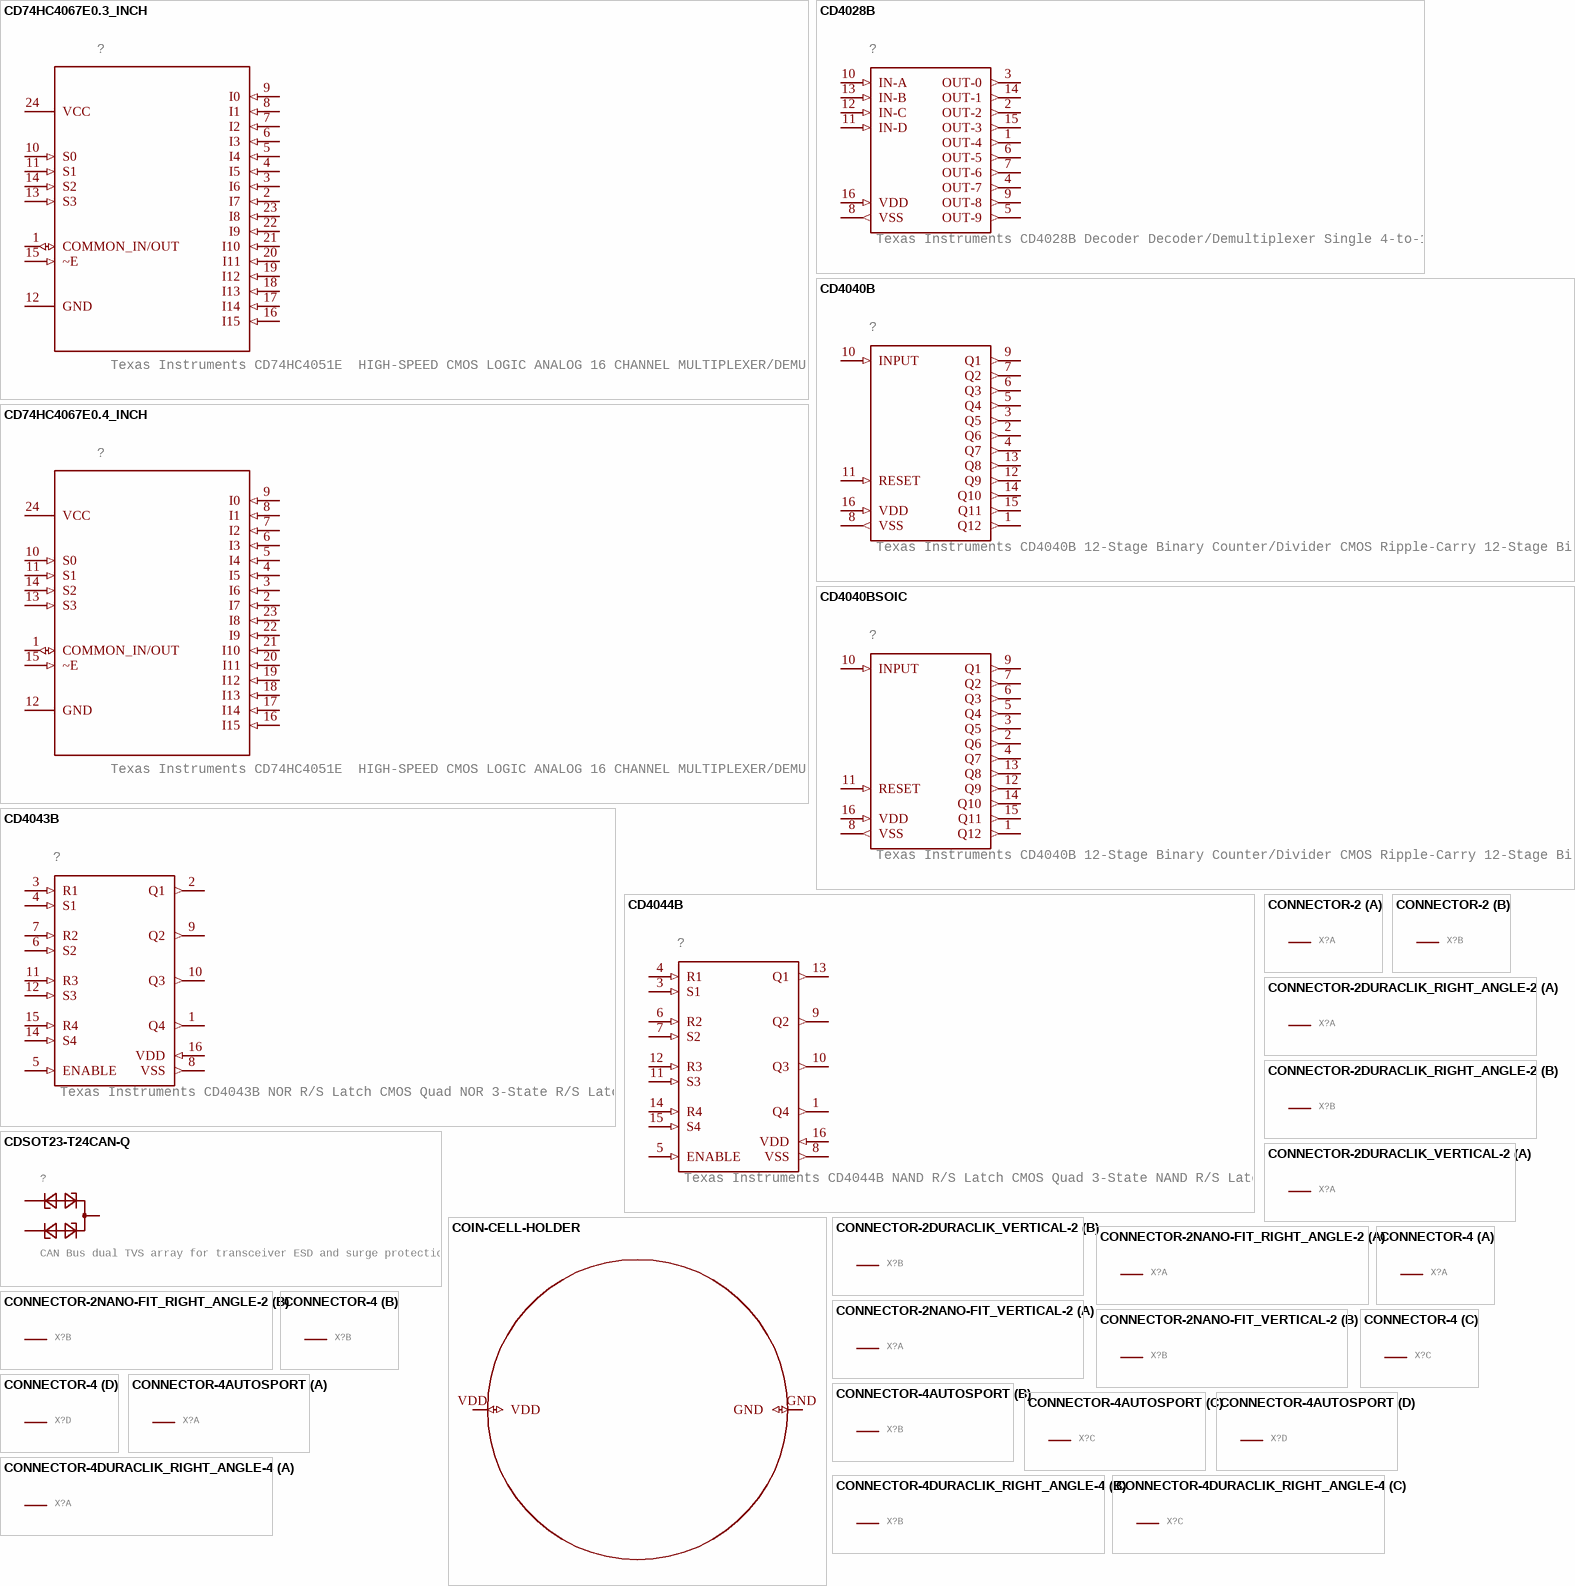
[diagram p4: symbols CD74HC4067E0.3_INCH to CONNECTOR-4DURACLIK_RIGHT_ANGLE-4]

## CD74HC4067E0.3_INCH
designator ?, comment Texas Instruments CD74HC4051E  HIGH-SPEED CMOS LOGIC ANALOG 16 CHANNEL MULTIPLEXER/DEMULTIPLEXER
GateName_1: G$1; SymbolName_1: CD74HC4067E; DeviceName: 0.3_INCH; LibraryName: HyTechDevices; DeviceSetName: CD74HC4067E; Package: DIL24-3
footprint DIL24-3
pins: 1 COMMON_IN/OUT (io), 2 I7 (in), 3 I6 (in), 4 I5 (in), 5 I4 (in), 6 I3 (in), 7 I2 (in), 8 I1 (in), 9 I0 (in), 10 S0 (in), 11 S1 (in), 12 GND, 13 S3 (in), 14 S2 (in), 15 ~E (in), 16 I15 (in), 17 I14 (in), 18 I13 (in), 19 I12 (in), 20 I11 (in), 21 I10 (in), 22 I9 (in), 23 I8 (in), 24 VCC (power)

## CD74HC4067E0.4_INCH
designator ?, comment Texas Instruments CD74HC4051E  HIGH-SPEED CMOS LOGIC ANALOG 16 CHANNEL MULTIPLEXER/DEMULTIPLEXER
GateName_1: G$1; SymbolName_1: CD74HC4067E; DeviceName: 0.4_INCH; LibraryName: HyTechDevices; DeviceSetName: CD74HC4067E; Package: DIL24-4
footprint DIL24-4
pins: 1 COMMON_IN/OUT (io), 2 I7 (in), 3 I6 (in), 4 I5 (in), 5 I4 (in), 6 I3 (in), 7 I2 (in), 8 I1 (in), 9 I0 (in), 10 S0 (in), 11 S1 (in), 12 GND, 13 S3 (in), 14 S2 (in), 15 ~E (in), 16 I15 (in), 17 I14 (in), 18 I13 (in), 19 I12 (in), 20 I11 (in), 21 I10 (in), 22 I9 (in), 23 I8 (in), 24 VCC (power)

## CD4028B
designator ?, comment Texas Instruments CD4028B Decoder Decoder/Demultiplexer Single 4-to-10
GateName_1: G$1; SymbolName_1: CD4028B; LibraryName: HyTechDevices; DeviceSetName: CD4028B; Package: DIL16
footprint DIL16
pins: 1 OUT-4 (out), 2 OUT-2 (out), 3 OUT-0 (out), 4 OUT-7 (out), 5 OUT-9 (out), 6 OUT-5 (out), 7 OUT-6 (out), 8 VSS (out), 9 OUT-8 (out), 10 IN-A (in), 11 IN-D (in), 12 IN-C (in), 13 IN-B (in), 14 OUT-1 (out), 15 OUT-3 (out), 16 VDD (in)

## CD4040B
designator ?, comment Texas Instruments CD4040B 12-Stage Binary Counter/Divider CMOS Ripple-Carry 12-Stage Binary Counter/Divider
GateName_1: G$1; SymbolName_1: CD4040B; LibraryName: HyTechDevices; DeviceSetName: CD4040B; Package: DIL16
footprint DIL16
pins: 1 Q12 (out), 2 Q6 (out), 3 Q5 (out), 4 Q7 (out), 5 Q4 (out), 6 Q3 (out), 7 Q2 (out), 8 VSS (out), 9 Q1 (out), 10 INPUT (in), 11 RESET (in), 12 Q9 (out), 13 Q8 (out), 14 Q10 (out), 15 Q11 (out), 16 VDD (in)

## CD4040BSOIC
designator ?, comment Texas Instruments CD4040B 12-Stage Binary Counter/Divider CMOS Ripple-Carry 12-Stage Binary Counter/Divider
GateName_1: G$1; DeviceName: SOIC; SymbolName_1: CD4040B; LibraryName: HyTechDevices; DeviceSetName: CD4040B; Package: SOIC-16
footprint SOIC-16
pins: 1 Q12 (out), 2 Q6 (out), 3 Q5 (out), 4 Q7 (out), 5 Q4 (out), 6 Q3 (out), 7 Q2 (out), 8 VSS (out), 9 Q1 (out), 10 INPUT (in), 11 RESET (in), 12 Q9 (out), 13 Q8 (out), 14 Q10 (out), 15 Q11 (out), 16 VDD (in)

## CD4043B
designator ?, comment Texas Instruments CD4043B NOR R/S Latch CMOS Quad NOR 3-State R/S Latch
GateName_1: G$1; SymbolName_1: CD4043B/CD4044B; LibraryName: HyTechDevices; DeviceSetName: CD4043B; Package: DIL16
footprint DIL16
pins: 1 Q4 (out), 2 Q1 (out), 3 R1 (in), 4 S1 (in), 5 ENABLE (in), 6 S2 (in), 7 R2 (in), 8 VSS (out), 9 Q2 (out), 10 Q3 (out), 11 R3 (in), 12 S3 (in), 14 S4 (in), 15 R4 (in), 16 VDD (in)

## CD4044B
designator ?, comment Texas Instruments CD4044B NAND R/S Latch CMOS Quad 3-State NAND R/S Latch
GateName_1: G$1; SymbolName_1: CD4043B/CD4044B; LibraryName: HyTechDevices; DeviceSetName: CD4044B; Package: DIL16
footprint DIL16
pins: 1 Q4 (out), 3 S1 (in), 4 R1 (in), 5 ENABLE (in), 6 R2 (in), 7 S2 (in), 8 VSS (out), 9 Q2 (out), 10 Q3 (out), 11 S3 (in), 12 R3 (in), 13 Q1 (out), 14 R4 (in), 15 S4 (in), 16 VDD (in)

## CDSOT23-T24CAN-Q
designator ?, comment CAN Bus dual TVS array for transceiver ESD and surge protection
GateName_1: G$1; SymbolName_1: CDSOT23-T24CAN-Q; LibraryName: HyTechDevices; DeviceSetName: CDSOT23-T24CAN-Q; Package: SOT23
footprint SOT23
pins: 1, 2, 3

## COIN-CELL-HOLDER
designator ?
GateName_1: G$1; SymbolName_1: COIN-CELL-HOLDER; LibraryName: HyTechDevices; DeviceSetName: COIN-CELL-HOLDER; Package: COIN-CELL-HOLDER
footprint COIN-CELL-HOLDER
pins: GND (io), VDD (io)

## CONNECTOR-2
designator X?, comment Mini-Fit Junior connector 2 pole   Source: http://www.molex.com  (value not drawn)
GateName_1: -1; SymbolName_1: MV; GateName_2: -2; SymbolName_2: M; DeviceSetName: CONNECTOR-2; LibraryName: HyTechDevices; Package: MINIFIT_5566-2; OC_FARNELL: 1822072; OC_NEWARK: unknown
footprint MINIFIT_5566-2
part A pins: 1 S
part B pins: 2 S

## CONNECTOR-2DURACLIK_RIGHT_ANGLE-2
designator X?, comment Mini-Fit Junior connector 2 pole   Source: http://www.molex.com  (value not drawn)
GateName_1: -1; SymbolName_1: MV; GateName_2: -2; SymbolName_2: M; DeviceName: DURACLIK_RIGHT_ANGLE-2; DeviceSetName: CONNECTOR-2; LibraryName: HyTechDevices; Package: DURACLIK_RIGHT_ANGLE-2
footprint DURACLIK_RIGHT_ANGLE-2
part A pins: 1 S
part B pins: 2 S

## CONNECTOR-2DURACLIK_VERTICAL-2
designator X?, comment Mini-Fit Junior connector 2 pole   Source: http://www.molex.com  (value not drawn)
GateName_1: -1; SymbolName_1: MV; GateName_2: -2; SymbolName_2: M; DeviceName: DURACLIK_VERTICAL-2; DeviceSetName: CONNECTOR-2; LibraryName: HyTechDevices; Package: DURACLIK_VERTICAL-2
footprint DURACLIK_VERTICAL-2
part A pins: 1 S
part B pins: 2 S

## CONNECTOR-2NANO-FIT_RIGHT_ANGLE-2
designator X?, comment Mini-Fit Junior connector 2 pole   Source: http://www.molex.com  (value not drawn)
GateName_1: -1; SymbolName_1: MV; GateName_2: -2; SymbolName_2: M; DeviceName: NANO-FIT_RIGHT_ANGLE-2; DeviceSetName: CONNECTOR-2; LibraryName: HyTechDevices; Package: NANO-FIT_RIGHT_ANGLE-2
footprint NANO-FIT_RIGHT_ANGLE-2
part A pins: 1 S
part B pins: 2 S

## CONNECTOR-2NANO-FIT_VERTICAL-2
designator X?, comment Mini-Fit Junior connector 2 pole   Source: http://www.molex.com  (value not drawn)
GateName_1: -1; SymbolName_1: MV; GateName_2: -2; SymbolName_2: M; DeviceName: NANO-FIT_VERTICAL-2; DeviceSetName: CONNECTOR-2; LibraryName: HyTechDevices; Package: NANO-FIT_VERTICAL-2
footprint NANO-FIT_VERTICAL-2
part A pins: P$1 S
part B pins: P$2 S

## CONNECTOR-4
designator X?, comment Mini-Fit Junior connector 4 pole   Source: http://www.molex.com  (value not drawn)
GateName_1: -1; SymbolName_1: MV; GateName_2: -2; SymbolName_2: M; GateName_3: -3; GateName_4: -4; DeviceSetName: CONNECTOR-4; SymbolName_3: M; SymbolName_4: M; LibraryName: HyTechDevices; Package: MINIFIT_5566-4; OC_FARNELL: unknown; OC_NEWARK: unknown
footprint MINIFIT_5566-4
part A pins: 1 S
part B pins: 2 S
part C pins: 3 S
part D pins: 4 S

## CONNECTOR-4AUTOSPORT
designator X?, comment Mini-Fit Junior connector 4 pole   Source: http://www.molex.com  (value not drawn)
GateName_1: -1; SymbolName_1: MV; GateName_2: -2; SymbolName_2: M; GateName_3: -3; GateName_4: -4; DeviceName: AUTOSPORT; DeviceSetName: CONNECTOR-4; SymbolName_3: M; SymbolName_4: M; LibraryName: HyTechDevices; Package: AUTOSPORT_12-04
footprint AUTOSPORT_12-04
part A pins: P$1 S
part B pins: P$2 S
part C pins: P$3 S
part D pins: P$4 S

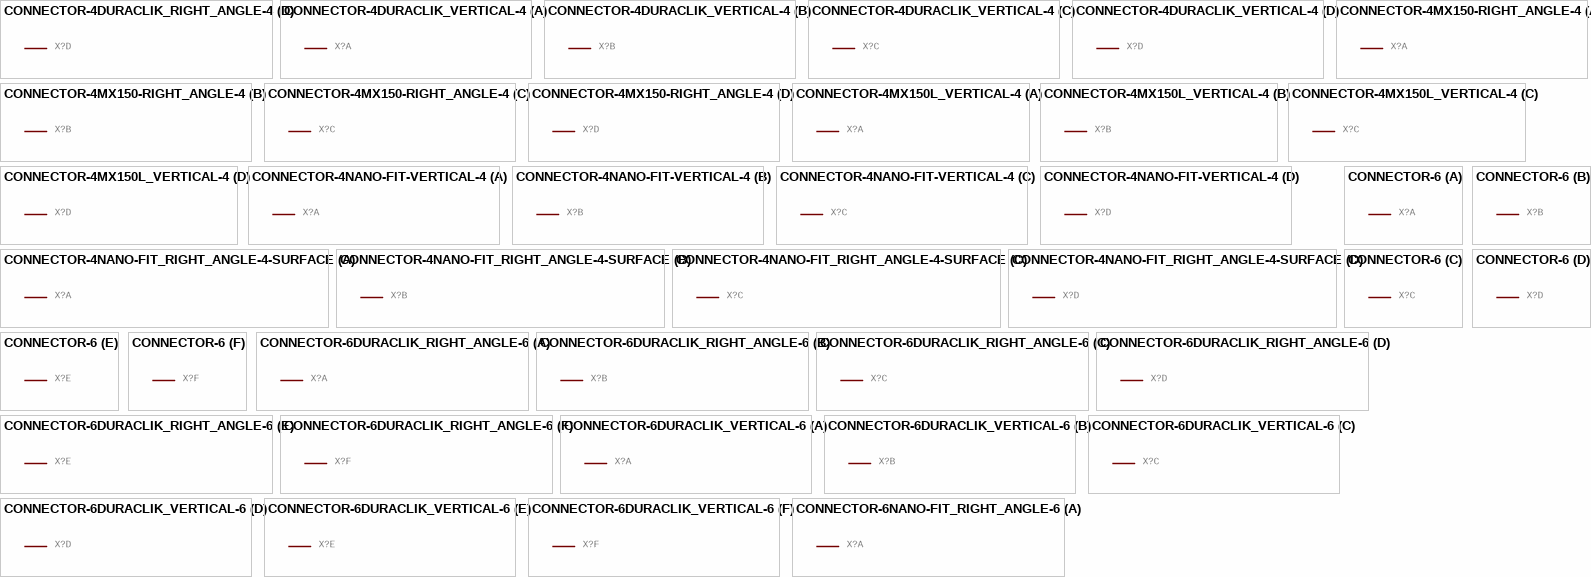
[diagram p5: symbols CONNECTOR-4DURACLIK_RIGHT_ANGLE-4 to CONNECTOR-6NANO-FIT_RIGHT_ANGLE-6]

## CONNECTOR-4DURACLIK_RIGHT_ANGLE-4
designator X?, comment Mini-Fit Junior connector 4 pole   Source: http://www.molex.com  (value not drawn)
GateName_1: -1; SymbolName_1: MV; GateName_2: -2; SymbolName_2: M; GateName_3: -3; GateName_4: -4; DeviceName: DURACLIK_RIGHT_ANGLE-4; DeviceSetName: CONNECTOR-4; SymbolName_3: M; SymbolName_4: M; LibraryName: HyTechDevices; Package: DURACLIK_RIGHT_ANGLE-4
footprint DURACLIK_RIGHT_ANGLE-4
part A pins: 1 S
part B pins: 2 S
part C pins: 3 S
part D pins: 4 S

## CONNECTOR-4DURACLIK_VERTICAL-4
designator X?, comment Mini-Fit Junior connector 4 pole   Source: http://www.molex.com  (value not drawn)
GateName_1: -1; SymbolName_1: MV; GateName_2: -2; SymbolName_2: M; GateName_3: -3; GateName_4: -4; DeviceName: DURACLIK_VERTICAL-4; DeviceSetName: CONNECTOR-4; SymbolName_3: M; SymbolName_4: M; LibraryName: HyTechDevices; Package: DURACLIK_VERTICAL-4
footprint DURACLIK_VERTICAL-4
part A pins: 1 S
part B pins: 2 S
part C pins: 3 S
part D pins: 4 S

## CONNECTOR-4MX150-RIGHT_ANGLE-4
designator X?, comment Mini-Fit Junior connector 4 pole   Source: http://www.molex.com  (value not drawn)
GateName_1: -1; SymbolName_1: MV; GateName_2: -2; SymbolName_2: M; GateName_3: -3; GateName_4: -4; DeviceName: MX150-RIGHT_ANGLE-4; DeviceSetName: CONNECTOR-4; SymbolName_3: M; SymbolName_4: M; LibraryName: HyTechDevices; Package: MX150L_RIGHT_ANGLE-4
footprint MX150L_RIGHT_ANGLE-4
part A pins: P$1 S
part B pins: P$2 S
part C pins: P$3 S
part D pins: P$4 S

## CONNECTOR-4MX150L_VERTICAL-4
designator X?, comment Mini-Fit Junior connector 4 pole   Source: http://www.molex.com  (value not drawn)
GateName_1: -1; SymbolName_1: MV; GateName_2: -2; SymbolName_2: M; GateName_3: -3; GateName_4: -4; DeviceName: MX150L_VERTICAL-4; DeviceSetName: CONNECTOR-4; SymbolName_3: M; SymbolName_4: M; LibraryName: HyTechDevices; Package: MX150L_VERTICAL-4
footprint MX150L_VERTICAL-4
part A pins: 1 S
part B pins: 2 S
part C pins: 3 S
part D pins: 4 S

## CONNECTOR-4NANO-FIT-VERTICAL-4
designator X?, comment Mini-Fit Junior connector 4 pole   Source: http://www.molex.com  (value not drawn)
GateName_1: -1; SymbolName_1: MV; GateName_2: -2; SymbolName_2: M; GateName_3: -3; GateName_4: -4; DeviceName: NANO-FIT-VERTICAL-4; DeviceSetName: CONNECTOR-4; SymbolName_3: M; SymbolName_4: M; LibraryName: HyTechDevices; Package: NANO-FIT_VERTICAL-4
footprint NANO-FIT_VERTICAL-4
part A pins: P$1 S
part B pins: P$2 S
part C pins: P$3 S
part D pins: P$4 S

## CONNECTOR-4NANO-FIT_RIGHT_ANGLE-4-SURFACE
designator X?, comment Mini-Fit Junior connector 4 pole   Source: http://www.molex.com  (value not drawn)
GateName_1: -1; SymbolName_1: MV; GateName_2: -2; SymbolName_2: M; GateName_3: -3; GateName_4: -4; DeviceName: NANO-FIT_RIGHT_ANGLE-4-SURFACE; DeviceSetName: CONNECTOR-4; SymbolName_3: M; SymbolName_4: M; LibraryName: HyTechDevices; Package: NANO-FIT_RIGHT_ANGLE-4-SURFACE
footprint NANO-FIT_RIGHT_ANGLE-4-SURFACE
part A pins: 1 S
part B pins: 2 S
part C pins: 3 S
part D pins: 4 S

## CONNECTOR-6
designator X?, comment Mini-Fit Junior connector 6 pole   Source: http://www.molex.com  (value not drawn)
MPN: 95566-61002; GateName_1: -1; SymbolName_1: MV; GateName_2: -2; SymbolName_2: M; GateName_3: -3; GateName_4: -4; GateName_5: -5; GateName_6: -6; DeviceSetName: CONNECTOR-6; SymbolName_3: M; SymbolName_4: M; SymbolName_5: M; SymbolName_6: M; LibraryName: HyTechDevices; Package: MINIFIT_5566-6; OC_FARNELL: unknown; OC_NEWARK: 22K8620
footprint MINIFIT_5566-6
part A pins: 1 S
part B pins: 2 S
part C pins: 3 S
part D pins: 4 S
part E pins: 5 S
part F pins: 6 S

## CONNECTOR-6DURACLIK_RIGHT_ANGLE-6
designator X?, comment Mini-Fit Junior connector 6 pole   Source: http://www.molex.com  (value not drawn)
GateName_1: -1; SymbolName_1: MV; GateName_2: -2; SymbolName_2: M; GateName_3: -3; GateName_4: -4; GateName_5: -5; GateName_6: -6; DeviceName: DURACLIK_RIGHT_ANGLE-6; DeviceSetName: CONNECTOR-6; SymbolName_3: M; SymbolName_4: M; SymbolName_5: M; SymbolName_6: M; LibraryName: HyTechDevices; Package: DURACLIK_RIGHT_ANGLE-6
footprint DURACLIK_RIGHT_ANGLE-6
part A pins: 1 S
part B pins: 2 S
part C pins: 3 S
part D pins: 4 S
part E pins: 5 S
part F pins: 6 S

## CONNECTOR-6DURACLIK_VERTICAL-6
designator X?, comment Mini-Fit Junior connector 6 pole   Source: http://www.molex.com  (value not drawn)
GateName_1: -1; SymbolName_1: MV; GateName_2: -2; SymbolName_2: M; GateName_3: -3; GateName_4: -4; GateName_5: -5; GateName_6: -6; DeviceName: DURACLIK_VERTICAL-6; DeviceSetName: CONNECTOR-6; SymbolName_3: M; SymbolName_4: M; SymbolName_5: M; SymbolName_6: M; LibraryName: HyTechDevices; Package: DURACLIK_VERTICAL-6
footprint DURACLIK_VERTICAL-6
part A pins: 1 S
part B pins: 2 S
part C pins: 3 S
part D pins: 4 S
part E pins: 5 S
part F pins: 6 S

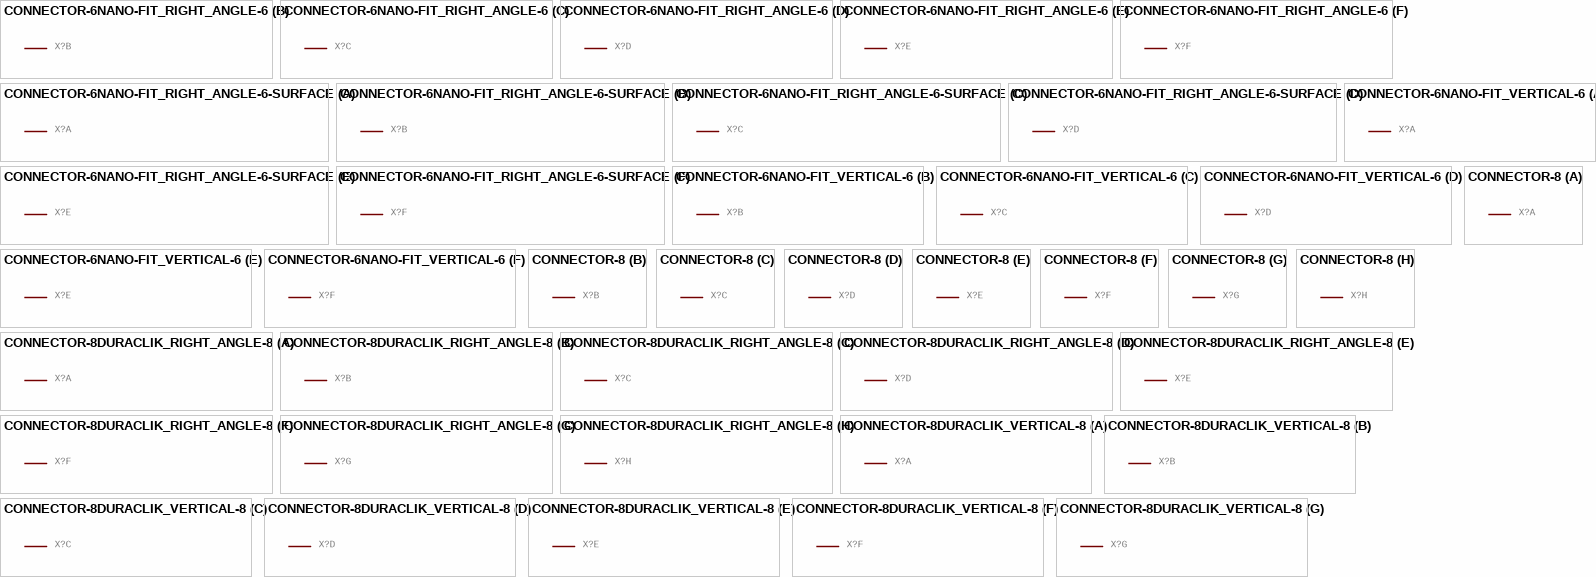
[diagram p6: symbols CONNECTOR-6NANO-FIT_RIGHT_ANGLE-6 to CONNECTOR-8DURACLIK_VERTICAL-8]

## CONNECTOR-6NANO-FIT_RIGHT_ANGLE-6
designator X?, comment Mini-Fit Junior connector 6 pole   Source: http://www.molex.com  (value not drawn)
GateName_1: -1; SymbolName_1: MV; GateName_2: -2; SymbolName_2: M; GateName_3: -3; GateName_4: -4; GateName_5: -5; GateName_6: -6; DeviceName: NANO-FIT_RIGHT_ANGLE-6; DeviceSetName: CONNECTOR-6; SymbolName_3: M; SymbolName_4: M; SymbolName_5: M; SymbolName_6: M; LibraryName: HyTechDevices; Package: NANO-FIT_RIGHT_ANGLE-6
footprint NANO-FIT_RIGHT_ANGLE-6
part A pins: 1 S
part B pins: 2 S
part C pins: 3 S
part D pins: 4 S
part E pins: 5 S
part F pins: 6 S

## CONNECTOR-6NANO-FIT_RIGHT_ANGLE-6-SURFACE
designator X?, comment Mini-Fit Junior connector 6 pole   Source: http://www.molex.com  (value not drawn)
GateName_1: -1; SymbolName_1: MV; GateName_2: -2; SymbolName_2: M; GateName_3: -3; GateName_4: -4; GateName_5: -5; GateName_6: -6; DeviceName: NANO-FIT_RIGHT_ANGLE-6-SURFACE; DeviceSetName: CONNECTOR-6; SymbolName_3: M; SymbolName_4: M; SymbolName_5: M; SymbolName_6: M; LibraryName: HyTechDevices; Package: NANO-FIT_RIGHT_ANGLE-6-SURFACE
footprint NANO-FIT_RIGHT_ANGLE-6-SURFACE
part A pins: 1 S
part B pins: 2 S
part C pins: 3 S
part D pins: 4 S
part E pins: 5 S
part F pins: 6 S

## CONNECTOR-6NANO-FIT_VERTICAL-6
designator X?, comment Mini-Fit Junior connector 6 pole   Source: http://www.molex.com  (value not drawn)
GateName_1: -1; SymbolName_1: MV; GateName_2: -2; SymbolName_2: M; GateName_3: -3; GateName_4: -4; GateName_5: -5; GateName_6: -6; DeviceName: NANO-FIT_VERTICAL-6; DeviceSetName: CONNECTOR-6; SymbolName_3: M; SymbolName_4: M; SymbolName_5: M; SymbolName_6: M; LibraryName: HyTechDevices; Package: NANO-FIT_VERTICAL-6
footprint NANO-FIT_VERTICAL-6
part A pins: P$1 S
part B pins: P$2 S
part C pins: P$3 S
part D pins: P$4 S
part E pins: P$5 S
part F pins: P$6 S

## CONNECTOR-8
designator X?, comment Mini-Fit Junior connector 8 pole   Source: http://www.molex.com  (value not drawn)
GateName_1: -1; SymbolName_1: MV; GateName_2: -2; SymbolName_2: M; GateName_3: -3; GateName_4: -4; GateName_5: -5; GateName_6: -6; GateName_7: -7; GateName_8: -8; DeviceSetName: CONNECTOR-8; SymbolName_3: M; SymbolName_4: M; SymbolName_5: M; SymbolName_6: M; SymbolName_7: M; SymbolName_8: M; LibraryName: HyTechDevices; Package: MINIFIT_5566-8; OC_FARNELL: unknown; OC_NEWARK: unknown
footprint MINIFIT_5566-8
part A pins: 1 S
part B pins: 2 S
part C pins: 3 S
part D pins: 4 S
part E pins: 5 S
part F pins: 6 S
part G pins: 7 S
part H pins: 8 S

## CONNECTOR-8DURACLIK_RIGHT_ANGLE-8
designator X?, comment Mini-Fit Junior connector 8 pole   Source: http://www.molex.com  (value not drawn)
GateName_1: -1; SymbolName_1: MV; GateName_2: -2; SymbolName_2: M; GateName_3: -3; GateName_4: -4; GateName_5: -5; GateName_6: -6; GateName_7: -7; GateName_8: -8; DeviceName: DURACLIK_RIGHT_ANGLE-8; DeviceSetName: CONNECTOR-8; SymbolName_3: M; SymbolName_4: M; SymbolName_5: M; SymbolName_6: M; SymbolName_7: M; SymbolName_8: M; LibraryName: HyTechDevices; Package: DURACLIK_RIGHT_ANGLE-8
footprint DURACLIK_RIGHT_ANGLE-8
part A pins: 1 S
part B pins: 2 S
part C pins: 3 S
part D pins: 4 S
part E pins: 5 S
part F pins: 6 S
part G pins: 7 S
part H pins: 8 S

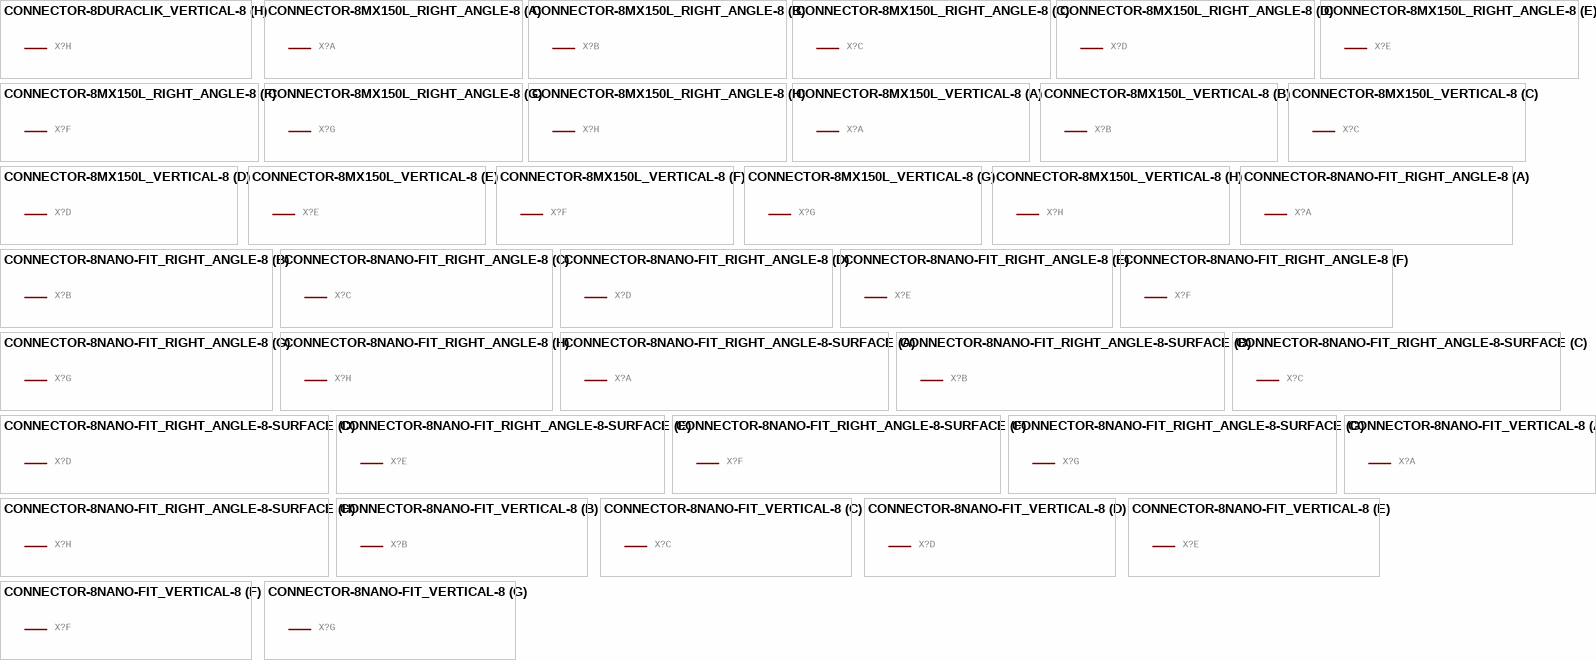
[diagram p7: symbols CONNECTOR-8DURACLIK_VERTICAL-8 to CONNECTOR-8NANO-FIT_VERTICAL-8]

## CONNECTOR-8DURACLIK_VERTICAL-8
designator X?, comment Mini-Fit Junior connector 8 pole   Source: http://www.molex.com  (value not drawn)
GateName_1: -1; SymbolName_1: MV; GateName_2: -2; SymbolName_2: M; GateName_3: -3; GateName_4: -4; GateName_5: -5; GateName_6: -6; GateName_7: -7; GateName_8: -8; DeviceName: DURACLIK_VERTICAL-8; DeviceSetName: CONNECTOR-8; SymbolName_3: M; SymbolName_4: M; SymbolName_5: M; SymbolName_6: M; SymbolName_7: M; SymbolName_8: M; LibraryName: HyTechDevices; Package: DURACLIK_VERTICAL-8
footprint DURACLIK_VERTICAL-8
part A pins: 1 S
part B pins: 2 S
part C pins: 3 S
part D pins: 4 S
part E pins: 5 S
part F pins: 6 S
part G pins: 7 S
part H pins: 8 S

## CONNECTOR-8MX150L_RIGHT_ANGLE-8
designator X?, comment Mini-Fit Junior connector 8 pole   Source: http://www.molex.com  (value not drawn)
GateName_1: -1; SymbolName_1: MV; GateName_2: -2; SymbolName_2: M; GateName_3: -3; GateName_4: -4; GateName_5: -5; GateName_6: -6; GateName_7: -7; GateName_8: -8; DeviceName: MX150L_RIGHT_ANGLE-8; DeviceSetName: CONNECTOR-8; SymbolName_3: M; SymbolName_4: M; SymbolName_5: M; SymbolName_6: M; SymbolName_7: M; SymbolName_8: M; LibraryName: HyTechDevices; Package: MX150L_RIGHT_ANGLE-8
footprint MX150L_RIGHT_ANGLE-8
part A pins: 1 S
part B pins: 2 S
part C pins: 3 S
part D pins: 4 S
part E pins: 5 S
part F pins: 6 S
part G pins: 7 S
part H pins: 8 S

## CONNECTOR-8MX150L_VERTICAL-8
designator X?, comment Mini-Fit Junior connector 8 pole   Source: http://www.molex.com  (value not drawn)
GateName_1: -1; SymbolName_1: MV; GateName_2: -2; SymbolName_2: M; GateName_3: -3; GateName_4: -4; GateName_5: -5; GateName_6: -6; GateName_7: -7; GateName_8: -8; DeviceName: MX150L_VERTICAL-8; DeviceSetName: CONNECTOR-8; SymbolName_3: M; SymbolName_4: M; SymbolName_5: M; SymbolName_6: M; SymbolName_7: M; SymbolName_8: M; LibraryName: HyTechDevices; Package: MX150L_VERTICAL-8
footprint MX150L_VERTICAL-8
part A pins: 1 S
part B pins: 2 S
part C pins: 3 S
part D pins: 4 S
part E pins: 5 S
part F pins: 6 S
part G pins: 7 S
part H pins: 8 S

## CONNECTOR-8NANO-FIT_RIGHT_ANGLE-8
designator X?, comment Mini-Fit Junior connector 8 pole   Source: http://www.molex.com  (value not drawn)
GateName_1: -1; SymbolName_1: MV; GateName_2: -2; SymbolName_2: M; GateName_3: -3; GateName_4: -4; GateName_5: -5; GateName_6: -6; GateName_7: -7; GateName_8: -8; DeviceName: NANO-FIT_RIGHT_ANGLE-8; DeviceSetName: CONNECTOR-8; SymbolName_3: M; SymbolName_4: M; SymbolName_5: M; SymbolName_6: M; SymbolName_7: M; SymbolName_8: M; LibraryName: HyTechDevices; Package: NANO-FIT_RIGHT_ANGLE-8
footprint NANO-FIT_RIGHT_ANGLE-8
part A pins: 1 S
part B pins: 2 S
part C pins: 3 S
part D pins: 4 S
part E pins: 5 S
part F pins: 6 S
part G pins: 7 S
part H pins: 8 S

## CONNECTOR-8NANO-FIT_RIGHT_ANGLE-8-SURFACE
designator X?, comment Mini-Fit Junior connector 8 pole   Source: http://www.molex.com  (value not drawn)
GateName_1: -1; SymbolName_1: MV; GateName_2: -2; SymbolName_2: M; GateName_3: -3; GateName_4: -4; GateName_5: -5; GateName_6: -6; GateName_7: -7; GateName_8: -8; DeviceName: NANO-FIT_RIGHT_ANGLE-8-SURFACE; DeviceSetName: CONNECTOR-8; SymbolName_3: M; SymbolName_4: M; SymbolName_5: M; SymbolName_6: M; SymbolName_7: M; SymbolName_8: M; LibraryName: HyTechDevices; Package: NANO-FIT_RIGHT_ANGLE-8-SURFACE
footprint NANO-FIT_RIGHT_ANGLE-8-SURFACE
part A pins: 1 S
part B pins: 2 S
part C pins: 3 S
part D pins: 4 S
part E pins: 5 S
part F pins: 6 S
part G pins: 7 S
part H pins: 8 S

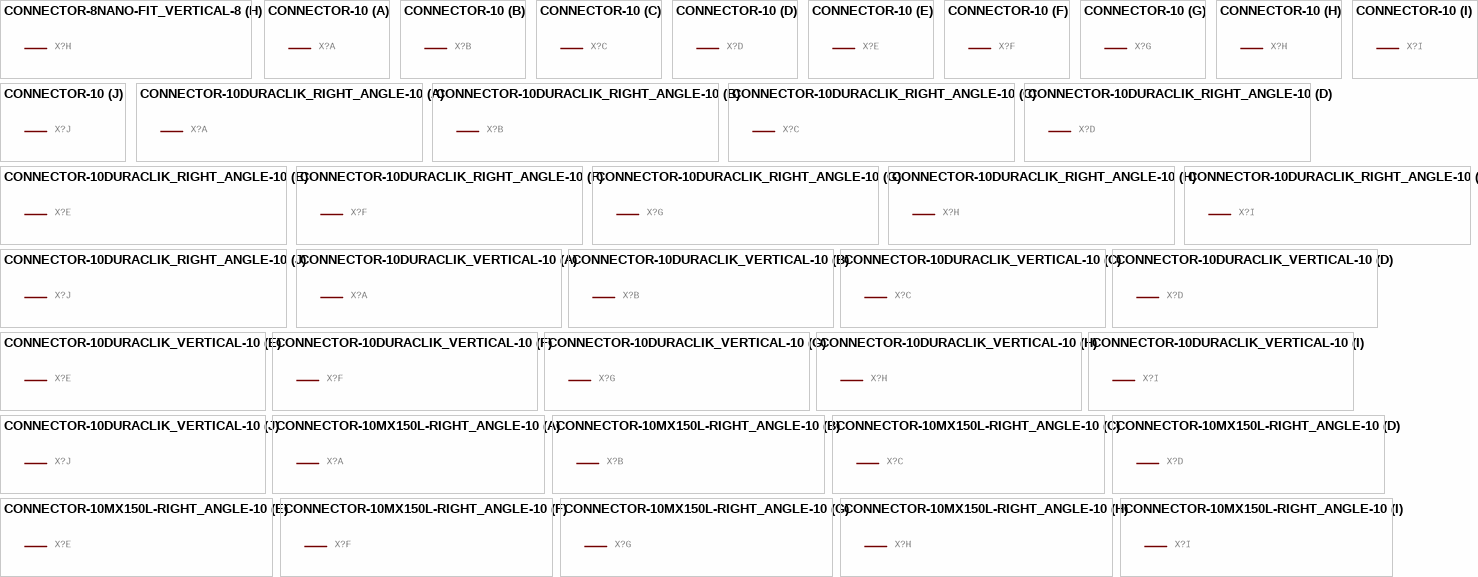
[diagram p8: symbols CONNECTOR-8NANO-FIT_VERTICAL-8 to CONNECTOR-10MX150L-RIGHT_ANGLE-10]